# Altium schematic symbol library LIBRARY_SCH.SCHLIB: 713 symbols (part 1 of 6)
Pins are listed as number, name and electrical type; pins without a type are passive.

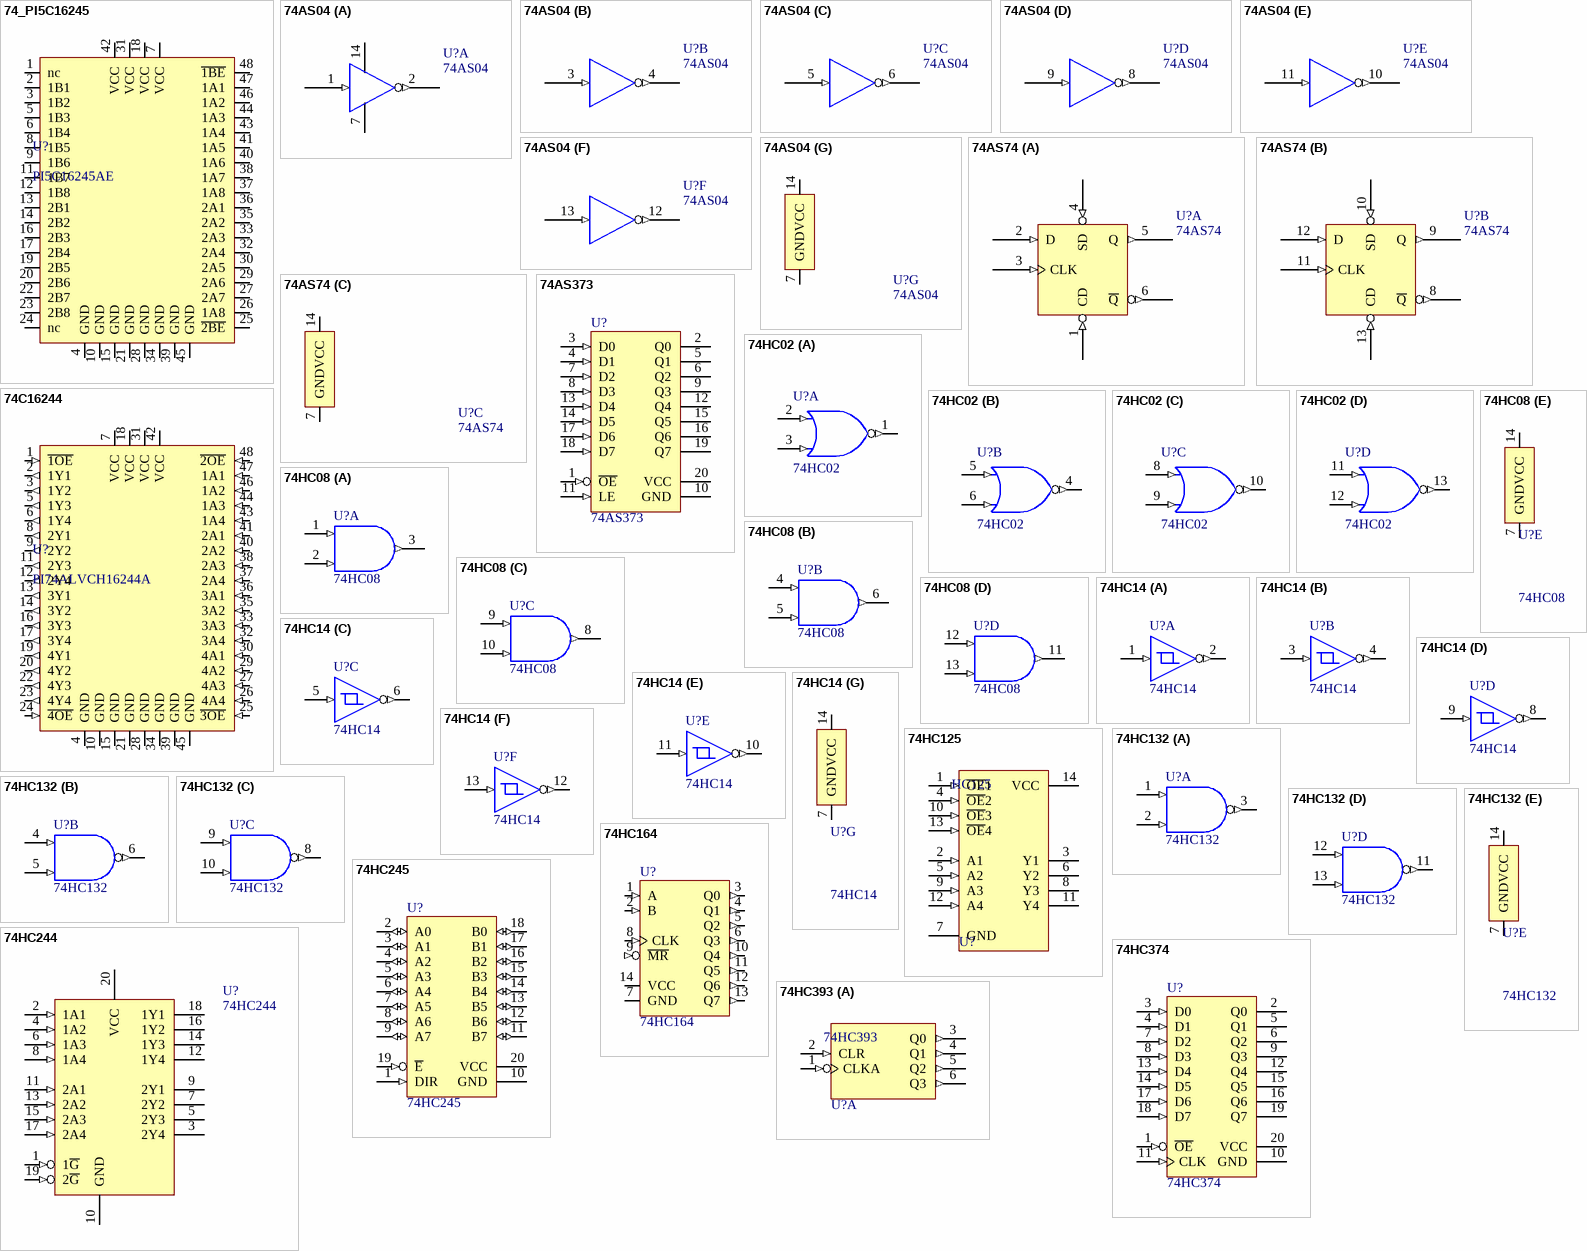
[diagram p0: symbols 74_PI5C16245 to 74HC393]

## 74_PI5C16245
designator U?, comment PI5C16245AE
16 bit bus transceiver
footprint TSSOP-48
pins: 1 nc, 2 1B1 (io), 3 1B2 (io), 4 GND (power), 5 1B3 (io), 6 1B4 (io), 7 VCC (power), 8 1B5 (io), 9 1B6 (io), 10 GND (power), 11 1B7 (io), 12 1B8 (io), 13 2B1 (io), 14 2B2 (io), 15 GND (power), 16 2B3 (io), 17 2B4 (io), 18 VCC (power), 19 2B5 (io), 20 2B6 (io), 21 GND (power), 22 2B7 (io), 23 2B8 (io), 24 nc, 25 ~{2BE} (io), 26 1A8 (io), 27 2A7 (io), 28 GND (power), 29 2A6 (io), 30 2A5 (io), 31 VCC (power), 32 2A4 (io), 33 2A3 (io), 34 GND (power), 35 2A2 (io), 36 2A1 (io), 37 1A8 (io), 38 1A7 (io), 39 GND (power), 40 1A6 (io), 41 1A5 (io), 42 VCC (power), 43 1A4 (io), 44 1A3 (io), 45 GND (power), 46 1A2 (io), 47 1A1 (io), 48 ~{1BE} (io)

## 74AS04
designator U?
footprint DIP-14
footprint SO-14
part A pins: 1 (in), 2 (out), 7 (power), 14 (power)
part B pins: 3 (in), 4 (out)
part C pins: 5 (in), 6 (out)
part D pins: 8 (out), 9 (in)
part E pins: 10 (out), 11 (in)
part F pins: 12 (out), 13 (in)
part G pins: 7 GND (power), 14 VCC (power)
2 alternate drawings of the same symbol

## 74AS74
designator U?
footprint DIP-14
part A pins: 1 CD (in), 2 D (in), 3 CLK (in), 4 SD (in), 5 Q (out), 6 ~{Q} (out)
part B pins: 8 ~{Q} (out), 9 Q (out), 10 SD (in), 11 CLK (in), 12 D (in), 13 CD (in)
part C pins: 7 GND (power), 14 VCC (power)
2 alternate drawings of the same symbol

## 74AS373
designator U?
TTL octal latch
footprint DIP-20
footprint sol-20
footprint tssop20
pins: 1 ~{OE} (in), 2 Q0 (hiz), 3 D0 (in), 4 D1 (in), 5 Q1 (hiz), 6 Q2 (hiz), 7 D2 (in), 8 D3 (in), 9 Q3 (hiz), 10 GND (power), 11 LE (in), 12 Q4 (hiz), 13 D4 (in), 14 D5 (in), 15 Q5 (hiz), 16 Q6 (hiz), 17 D6 (in), 18 D7 (in), 19 Q7 (hiz), 20 VCC (power)
2 alternate drawings of the same symbol

## 74C16244
designator U?, comment PI74ALVCH16244A
16 x Buffer/Driver
footprint TSSOP-48
pins: 1 ~{1OE} (in), 2 1Y1 (out), 3 1Y2 (out), 4 GND (power), 5 1Y3 (out), 6 1Y4 (out), 7 VCC (power), 8 2Y1 (out), 9 2Y2 (out), 10 GND (power), 11 2Y3 (out), 12 2Y4 (out), 13 3Y1 (out), 14 3Y2 (out), 15 GND (power), 16 3Y3 (out), 17 3Y4 (out), 18 VCC (power), 19 4Y1 (out), 20 4Y2 (out), 21 GND (power), 22 4Y3 (out), 23 4Y4 (out), 24 ~{4OE} (in), 25 ~{3OE} (in), 26 4A4 (in), 27 4A3 (in), 28 GND (power), 29 4A2 (in), 30 4A1 (in), 31 VCC (power), 32 3A4 (in), 33 3A3 (in), 34 GND (power), 35 3A2 (in), 36 3A1 (in), 37 2A4 (in), 38 2A3 (in), 39 GND (power), 40 2A2 (in), 41 2A1 (in), 42 VCC (power), 43 1A4 (in), 44 1A3 (in), 45 GND (power), 46 1A2 (in), 47 1A1 (in), 48 ~{2OE} (in)

## 74HC02
designator U?
footprint DIP-14
footprint SO-14
part A pins: 1 (out), 2 (in), 3 (in)
part B pins: 4 (out), 5 (in), 6 (in)
part C pins: 8 (in), 9 (in), 10 (out)
part D pins: 11 (in), 12 (in), 13 (out)
2 alternate drawings of the same symbol

## 74HC08
designator U?
footprint DIP-14
footprint SO-14
part A pins: 1 (in), 2 (in), 3 (out)
part B pins: 4 (in), 5 (in), 6 (out)
part C pins: 8 (out), 9 (in), 10 (in)
part D pins: 11 (out), 12 (in), 13 (in)
part E pins: 7 GND (power), 14 VCC (power)
2 alternate drawings of the same symbol

## 74HC14
designator U?
footprint DIP-14
footprint so-14
part A pins: 1 (in), 2 (out)
part B pins: 3 (in), 4 (out)
part C pins: 5 (in), 6 (out)
part D pins: 8 (out), 9 (in)
part E pins: 10 (out), 11 (in)
part F pins: 12 (out), 13 (in)
part G pins: 7 GND (power), 14 VCC (power)
2 alternate drawings of the same symbol

## 74HC125
designator U?, comment HC125
Quad Buffer with 3-State Output; Package Information: Latest Revision: Aug-1999; Published: 17-Jul-2002; Datasheet: Latest Revision: Nov-1999; Package Reference: MTC14; Publisher: Altium Limited
signal-integrity model 74ACT125MTC
footprint SO-14
pins: 1 ~{OE}1 (in), 2 A1 (in), 3 Y1 (hiz), 4 ~{OE}2 (in), 5 A2 (in), 6 Y2 (hiz), 7 GND (power), 8 Y3 (hiz), 9 A3 (in), 10 ~{OE}3 (in), 11 Y4 (hiz), 12 A4 (in), 13 ~{OE}4 (in), 14 VCC (power)

## 74HC132
designator U?
footprint DIP-14
footprint SO-14
part A pins: 1 (in), 2 (in), 3 (out)
part B pins: 4 (in), 5 (in), 6 (out)
part C pins: 8 (out), 9 (in), 10 (in)
part D pins: 11 (out), 12 (in), 13 (in)
part E pins: 7 GND (power), 14 VCC (power)
2 alternate drawings of the same symbol

## 74HC164
designator U?
shift register
footprint DIP-14
footprint SO-14
pins: 1 A (in), 2 B (in), 3 Q0 (out), 4 Q1 (out), 5 Q2 (out), 6 Q3 (out), 7 GND, 8 CLK (in), 9 ~{MR} (in), 10 Q4 (out), 11 Q5 (out), 12 Q6 (out), 13 Q7 (out), 14 VCC
2 alternate drawings of the same symbol

## 74HC244
designator U?
TTL BUS tristate
footprint sol-20
footprint tssop20
pins: 1 1~{G} (in), 2 1A1 (in), 3 2Y4 (hiz), 4 1A2 (in), 5 2Y3 (hiz), 6 1A3 (in), 7 2Y2 (hiz), 8 1A4 (in), 9 2Y1 (hiz), 10 GND (power), 11 2A1 (in), 12 1Y4 (hiz), 13 2A2 (in), 14 1Y3 (hiz), 15 2A3 (in), 16 1Y2 (hiz), 17 2A4 (in), 18 1Y1 (hiz), 19 2~{G} (in), 20 VCC (power)
2 alternate drawings of the same symbol

## 74HC245
designator U?
octal  bidir line driver
footprint SOL-20
footprint DIP-20
footprint tssop20
pins: 1 DIR (in), 2 A0 (io), 3 A1 (io), 4 A2 (io), 5 A3 (io), 6 A4 (io), 7 A5 (io), 8 A6 (io), 9 A7 (io), 10 GND (power), 11 B7 (io), 12 B6 (io), 13 B5 (io), 14 B4 (io), 15 B3 (io), 16 B2 (io), 17 B1 (io), 18 B0 (io), 19 ~{E} (in), 20 VCC (power)
2 alternate drawings of the same symbol

## 74HC374
designator U?
TTL latch
footprint DIP-20
footprint sol-20
footprint tssop20
pins: 1 ~{OE} (in), 2 Q0 (hiz), 3 D0 (in), 4 D1 (in), 5 Q1 (hiz), 6 Q2 (hiz), 7 D2 (in), 8 D3 (in), 9 Q3 (hiz), 10 GND (power), 11 CLK (in), 12 Q4 (hiz), 13 D4 (in), 14 D5 (in), 15 Q5 (hiz), 16 Q6 (hiz), 17 D6 (in), 18 D7 (in), 19 Q7 (hiz), 20 VCC (power)
2 alternate drawings of the same symbol

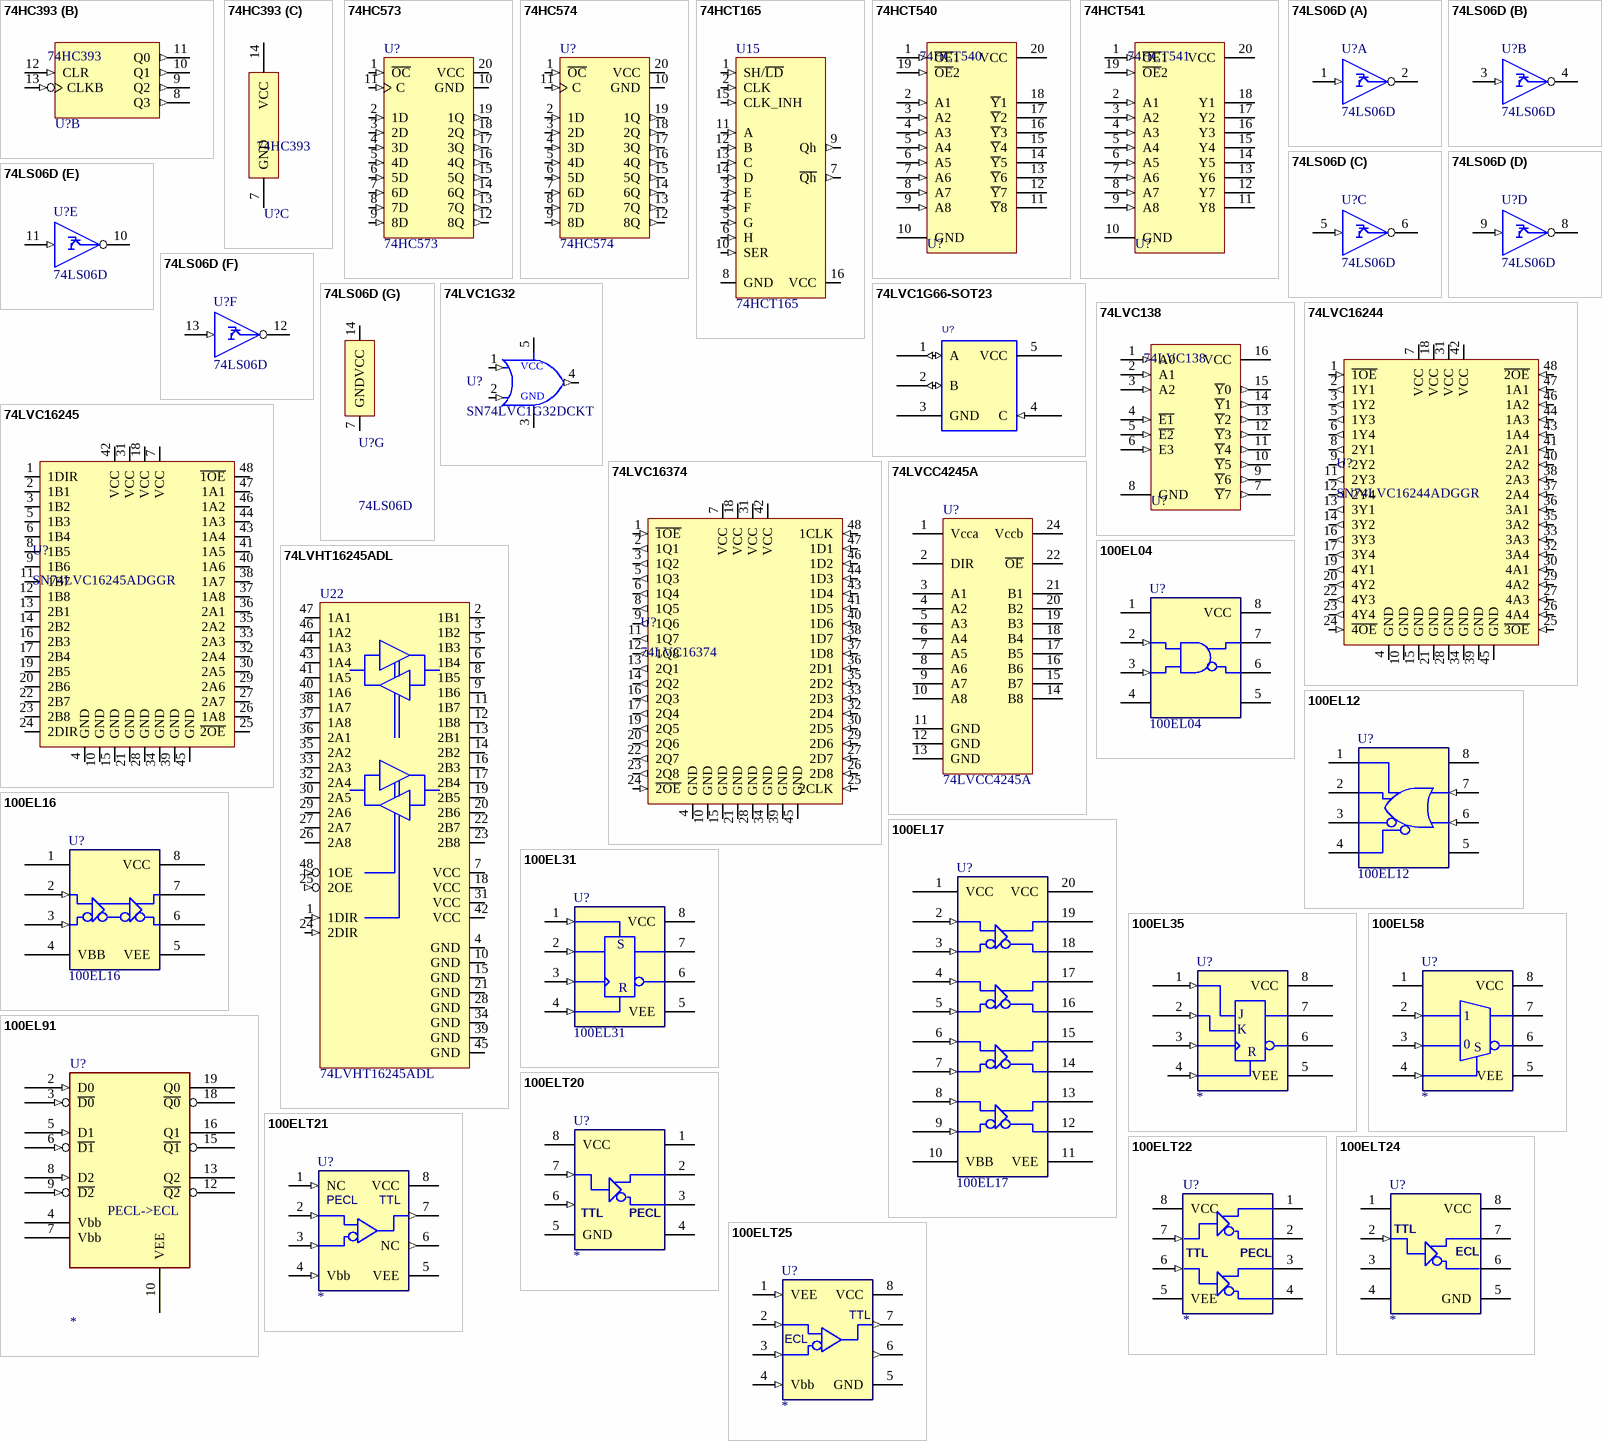
[diagram p1: symbols 74HC393 to 100ELT25]

## 74HC393
designator U?
Dual 4-Bit Binary Counter; Package Information: Latest Revision: 1998; Note: Pins 1, 5, 7, 11, 15 and 17 - no connection and not drawn; Published: 8-Jun-2000; Revision: 17-Jul-2002: Re-released for DXP Platform.; Datasheet: Latest Revision: May-1997; Package Reference: FK020; Publisher: Altium Limited
footprint SO-14
part A pins: 1 CLKA (in), 2 CLR (in), 3 Q0 (out), 4 Q1 (out), 5 Q2 (out), 6 Q3 (out)
part B pins: 8 Q3 (out), 9 Q2 (out), 10 Q1 (out), 11 Q0 (out), 12 CLR (in), 13 CLKB (in)
part C pins: 7 GND (power), 14 VCC (power)

## 74HC573
designator U?
TTL octal  latch
footprint DIP-20
footprint sol-20
footprint tssop20
pins: 1 ~{OC} (in), 2 1D (in), 3 2D (in), 4 3D (in), 5 4D (in), 6 5D (in), 7 6D (in), 8 7D (in), 9 8D (in), 10 GND (power), 11 C (in), 12 8Q (out), 13 7Q (out), 14 6Q (out), 15 5Q (out), 16 4Q (out), 17 3Q (out), 18 2Q (out), 19 1Q (out), 20 VCC (power)
2 alternate drawings of the same symbol

## 74HC574
designator U?
TTL octal  latch
footprint DIP-20
footprint sol-20
footprint tssop20
pins: 1 ~{OC} (in), 2 1D (in), 3 2D (in), 4 3D (in), 5 4D (in), 6 5D (in), 7 6D (in), 8 7D (in), 9 8D (in), 10 GND (power), 11 C (in), 12 8Q (out), 13 7Q (out), 14 6Q (out), 15 5Q (out), 16 4Q (out), 17 3Q (out), 18 2Q (out), 19 1Q (out), 20 VCC (power)
2 alternate drawings of the same symbol

## 74HCT165
designator U15
PISO shift register
footprint SO-16
pins: 1 SH/~{LD} (in), 2 CLK (in), 3 E (in), 4 F (in), 5 G (in), 6 H (in), 7 ~{Qh} (out), 8 GND (power), 9 Qh (out), 10 SER (in), 11 A (in), 12 B (in), 13 C (in), 14 D (in), 15 CLK_INH (in), 16 VCC (power)

## 74HCT540
designator U?
Octal Bus Buffer with 3 State Outputs (Inverted); Code - JEDEC: MS-013-AC; Code - IPC: SO20W; Published: 8-Jun-2000; Revision: 17-Jul-2002: Re-released for DXP Platform.; Datasheet: Latest Revision: Oct-1993; Package Reference: SO20B; Publisher: Altium Limited
signal-integrity model M74HCT540M1R
footprint sol-20
footprint tssop20
pins: 1 ~{OE}1 (in), 2 A1 (in), 3 A2 (in), 4 A3 (in), 5 A4 (in), 6 A5 (in), 7 A6 (in), 8 A7 (in), 9 A8 (in), 10 GND (power), 11 ~{Y}8 (hiz), 12 ~{Y}7 (hiz), 13 ~{Y}6 (hiz), 14 ~{Y}5 (hiz), 15 ~{Y}4 (hiz), 16 ~{Y}3 (hiz), 17 ~{Y}2 (hiz), 18 ~{Y}1 (hiz), 19 ~{OE}2 (in), 20 VCC (power)

## 74HCT541
designator U?
Octal Bus Buffer with 3 State Outputs (Non Inverted); Package Information: Latest Revision: Mar-1992; Published: 8-Jun-2000; Revision: 17-Jul-2002: Re-released for DXP Platform.; Datasheet: Latest Revision: Oct-1993; Package Reference: PLCC20; Publisher: Altium Limited
signal-integrity model M74HCT541C1R
footprint sol-20
footprint tssop20
pins: 1 ~{OE}1 (in), 2 A1 (in), 3 A2 (in), 4 A3 (in), 5 A4 (in), 6 A5 (in), 7 A6 (in), 8 A7 (in), 9 A8 (in), 10 GND (power), 11 Y8 (hiz), 12 Y7 (hiz), 13 Y6 (hiz), 14 Y5 (hiz), 15 Y4 (hiz), 16 Y3 (hiz), 17 Y2 (hiz), 18 Y1 (hiz), 19 ~{OE}2 (in), 20 VCC (power)

## 74LS06D
designator U?
hex HV OC inverters (Maritex)
footprint DIP-14
footprint so-14
part A pins: 1 (in), 2 (oc)
part B pins: 3 (in), 4 (oc)
part C pins: 5 (in), 6 (oc)
part D pins: 8 (oc), 9 (in)
part E pins: 10 (oc), 11 (in)
part F pins: 12 (oc), 13 (in)
part G pins: 7 GND (power), 14 VCC (power)
2 alternate drawings of the same symbol

## 74LVC1G32
designator U?, comment SN74LVC1G32DCKT
footprint SC70
footprint SOT23-5
pins: 1 (in), 2 (in), 3 GND (power), 4 (out), 5 (power)
text: VCC

## 74LVC1G66-SOT23
designator U?, comment SN74LVC1G66DBVT  (value not drawn)
FAB: TI; DEV: CIS_SOT23-5_02; BOI: SOT23; DESIG: SINGLE BILATERAL ANALOG SWITCH; REF: SN74LVC1G66DBVR; Right: 50; Bottom: 60
footprint SOT23-5
pins: 1 A (io), 2 B (io), 3 GND (power), 4 C (in), 5 VCC (power)

## 74LVC138
designator U?
3-Line to 8-Line Decoder / Demultiplexer; Package Information: Latest Revision: 1998; Note: Pins 1, 6, 11 and 16 are not connected and not drawn.; Published: 8-Jun-2000; Revision: 17-Jul-2002: Re-released for DXP Platform.; Datasheet: Latest Revision: Oct-1998; Package Reference: FK020; Publisher: Altium Limited
footprint tssop-16
pins: 1 A0 (in), 2 A1 (in), 3 A2 (in), 4 ~{E1} (in), 5 ~{E2} (in), 6 E3 (in), 7 ~{Y}7 (out), 8 GND (power), 9 ~{Y}6 (out), 10 ~{Y}5 (out), 11 ~{Y}4 (out), 12 ~{Y}3 (out), 13 ~{Y}2 (out), 14 ~{Y}1 (out), 15 ~{Y}0 (out), 16 VCC (power)

## 74LVC16244
designator U?, comment SN74LVC16244ADGGR
16 x Buffer/Driver
footprint TSSOP-48
pins: 1 ~{1OE} (in), 2 1Y1 (out), 3 1Y2 (out), 4 GND (power), 5 1Y3 (out), 6 1Y4 (out), 7 VCC (power), 8 2Y1 (out), 9 2Y2 (out), 10 GND (power), 11 2Y3 (out), 12 2Y4 (out), 13 3Y1 (out), 14 3Y2 (out), 15 GND (power), 16 3Y3 (out), 17 3Y4 (out), 18 VCC (power), 19 4Y1 (out), 20 4Y2 (out), 21 GND (power), 22 4Y3 (out), 23 4Y4 (out), 24 ~{4OE} (in), 25 ~{3OE} (in), 26 4A4 (in), 27 4A3 (in), 28 GND (power), 29 4A2 (in), 30 4A1 (in), 31 VCC (power), 32 3A4 (in), 33 3A3 (in), 34 GND (power), 35 3A2 (in), 36 3A1 (in), 37 2A4 (in), 38 2A3 (in), 39 GND (power), 40 2A2 (in), 41 2A1 (in), 42 VCC (power), 43 1A4 (in), 44 1A3 (in), 45 GND (power), 46 1A2 (in), 47 1A1 (in), 48 ~{2OE} (in)

## 74LVC16245
designator U?, comment SN74LVC16245ADGGR
16 bit bus transceiver
footprint TSSOP-48
pins: 1 1DIR (io), 2 1B1 (io), 3 1B2 (io), 4 GND (power), 5 1B3 (io), 6 1B4 (io), 7 VCC (power), 8 1B5 (io), 9 1B6 (io), 10 GND (power), 11 1B7 (io), 12 1B8 (io), 13 2B1 (io), 14 2B2 (io), 15 GND (power), 16 2B3 (io), 17 2B4 (io), 18 VCC (power), 19 2B5 (io), 20 2B6 (io), 21 GND (power), 22 2B7 (io), 23 2B8 (io), 24 2DIR (io), 25 ~{2OE} (io), 26 1A8 (io), 27 2A7 (io), 28 GND (power), 29 2A6 (io), 30 2A5 (io), 31 VCC (power), 32 2A4 (io), 33 2A3 (io), 34 GND (power), 35 2A2 (io), 36 2A1 (io), 37 1A8 (io), 38 1A7 (io), 39 GND (power), 40 1A6 (io), 41 1A5 (io), 42 VCC (power), 43 1A4 (io), 44 1A3 (io), 45 GND (power), 46 1A2 (io), 47 1A1 (io), 48 ~{1OE} (io)

## 74LVC16374
designator U?
16-BIT EDGE-TRIGGERED D-TYPE FLIP-FLOPS WITH 3-STATE OUTPUTS
footprint TSSOP-48
pins: 1 ~{1OE} (in), 2 1Q1 (out), 3 1Q2 (out), 4 GND (power), 5 1Q3 (out), 6 1Q4 (out), 7 VCC (power), 8 1Q5 (out), 9 1Q6 (out), 10 GND (power), 11 1Q7 (out), 12 1Q8 (out), 13 2Q1 (out), 14 2Q2 (out), 15 GND (power), 16 2Q3 (out), 17 2Q4 (out), 18 VCC (power), 19 2Q5 (out), 20 2Q6 (out), 21 GND (power), 22 2Q7 (out), 23 2Q8 (out), 24 ~{2OE} (in), 25 2CLK (in), 26 2D8 (in), 27 2D7 (in), 28 GND (power), 29 2D6 (in), 30 2D5 (in), 31 VCC (power), 32 2D4 (in), 33 2D3 (in), 34 GND (power), 35 2D2 (in), 36 2D1 (in), 37 1D8 (in), 38 1D7 (in), 39 GND (power), 40 1D6 (in), 41 1D5 (in), 42 VCC (power), 43 1D4 (in), 44 1D3 (in), 45 GND (power), 46 1D2 (in), 47 1D1 (in), 48 1CLK (in)

## 74LVCC4245A
designator U?
footprint SOIC24
pins: 1 Vcca, 2 DIR, 3 A1, 4 A2, 5 A3, 6 A4, 7 A5, 8 A6, 9 A7, 10 A8, 11 GND, 12 GND, 13 GND, 14 B8, 15 B7, 16 B6, 17 B5, 18 B4, 19 B3, 20 B2, 21 B1, 22 ~{OE}, 24 Vccb
2 alternate drawings of the same symbol

## 74LVHT16245ADL
designator U22
16 bit tristate bidir buffer for VME application
footprint SSOP-48(DL)
pins: 1 1DIR (in), 2 1B1 (hiz), 3 1B2 (hiz), 4 GND (power), 5 1B3 (hiz), 6 1B4 (hiz), 7 VCC (power), 8 1B5 (hiz), 9 1B6 (hiz), 10 GND (power), 11 1B7 (hiz), 12 1B8 (hiz), 13 2B1 (hiz), 14 2B2 (hiz), 15 GND (power), 16 2B3 (hiz), 17 2B4 (hiz), 18 VCC (power), 19 2B5 (hiz), 20 2B6 (hiz), 21 GND (power), 22 2B7 (hiz), 23 2B8 (hiz), 24 2DIR (in), 25 2OE (in), 26 2A8 (hiz), 27 2A7 (hiz), 28 GND (power), 29 2A6 (hiz), 30 2A5 (hiz), 31 VCC (power), 32 2A4 (hiz), 33 2A3 (hiz), 34 GND (power), 35 2A2 (hiz), 36 2A1 (hiz), 37 1A8 (hiz), 38 1A7 (hiz), 39 GND (power), 40 1A6 (hiz), 41 1A5 (hiz), 42 VCC (power), 43 1A4 (hiz), 44 1A3 (hiz), 45 GND (power), 46 1A2 (hiz), 47 1A1 (hiz), 48 1OE (in)

## 100EL04
designator U?
2-Input AND/NAND; Text Field1: ON Semiconductors
footprint SO-8
pins: 1, 2 (in), 3 (in), 4, 5 VEE (power), 6 (oe), 7 (oe), 8 VCC (power)
2 alternate drawings of the same symbol

## 100EL12
designator U?
Low Impedance Driver; Text Field1: ON Semiconductors
footprint SO-8
pins: 1 (oe), 2 (oe), 3 (oe), 4 (oe), 5 VEE (power), 6 (in), 7 (in), 8 VCC (power)
2 alternate drawings of the same symbol

## 100EL16
designator U?
Differential Receiver; Text Field1: ON Semiconductors
footprint SO-8
pins: 1, 2 (in), 3 (in), 4 VBB (oe), 5 VEE (power), 6 (oe), 7 (oe), 8 VCC (power)
2 alternate drawings of the same symbol

## 100EL17
designator U?
Quad Differential Receiver; Text Field1: ON Semiconductors
footprint SO-20L
pins: 1 VCC (power), 2 (in), 3 (in), 4 (in), 5 (in), 6 (in), 7 (in), 8 (in), 9 (in), 10 VBB (oe), 11 VEE (power), 12 (oe), 13 (oe), 14 (oe), 15 (oe), 16 (oe), 17 (oe), 18 (oe), 19 (oe), 20 VCC (power)
2 alternate drawings of the same symbol

## 100EL31
designator U?
D Flip-Flop; Text Field1: ON Semiconductors
footprint SO-8
pins: 1 (in), 2 (in), 3 (in), 4 (in), 5 VEE (power), 6 (oe), 7 (oe), 8 VCC (power)
2 alternate drawings of the same symbol
text: S; R

## 100EL35
designator U?
JK Flip-Flop; Text Field1: ON Semiconductors
footprint SO-8
pins: 1 (in), 2 (in), 3 (in), 4 (in), 5 VEE (power), 6 (oe), 7 (oe), 8 VCC (power)
2 alternate drawings of the same symbol
text: J; K; R

## 100EL58
designator U?
2:1 Multiplexer; Text Field1: ON Semiconductors
footprint SO-8
pins: 1, 2 (in), 3 (in), 4 (in), 5 VEE (power), 6 (oe), 7 (oe), 8 VCC (power)
2 alternate drawings of the same symbol
text: 0; S

## 100EL91
designator U?
Triple LVPECL-ECL Translator; Text Field1: ON Semiconductors
footprint SOL-20
pins: 2 D0 (in), 3 ~{D0} (in), 4 Vbb (oe), 5 D1 (in), 6 ~{D1} (in), 7 Vbb (oe), 8 D2 (in), 9 ~{D2} (in), 10 VEE (power), 12 ~{Q2} (oe), 13 Q2 (oe), 15 ~{Q1} (oe), 16 Q1 (oe), 18 ~{Q0} (oe), 19 Q0 (oe)
2 alternate drawings of the same symbol
text: PECL->ECL

## 100ELT20
designator U?
TTL-PECL Translator; Text Field1: ON Semiconductors
footprint SO-8
pins: 1 (oe), 2 (oe), 3 (oe), 4   (oe), 5 GND (power), 6 (in), 7 (in), 8 VCC (power)
2 alternate drawings of the same symbol
text: TTL; PECL

## 100ELT21
designator U?
PECL-TTL Translator; Text Field1: ON Semiconductors
footprint SO-8
pins: 1 NC (in), 2 (in), 3 (in), 4 Vbb (in), 5 VEE (power), 6 NC (out), 7 (out), 8 VCC (power)
2 alternate drawings of the same symbol
text: PECL; TTL

## 100ELT22
designator U?
TTL-PECL Translator; Text Field1: ON Semiconductors
footprint SO-8
pins: 1 (oe), 2 (oe), 3 (oe), 4   (oe), 5 VEE (power), 6 (in), 7 (in), 8 VCC (power)
2 alternate drawings of the same symbol
text: TTL; PECL

## 100ELT24
designator U?
TTL-ECL Translator; Text Field1: ON Semiconductors
footprint SO-8
pins: 1 VEE (power), 2 (in), 3 (oe), 4   (oe), 5 GND (power), 6 (oe), 7 (oe), 8 VCC (power)
2 alternate drawings of the same symbol
text: TTL; ECL

## 100ELT25
designator U?
ECL-TTL Translator; Text Field1: ON Semiconductors
footprint SO-8
pins: 1 VEE (in), 2 (in), 3 (in), 4 Vbb (in), 5 GND (power), 6 (out), 7 (out), 8 VCC (power)
2 alternate drawings of the same symbol
text: TTL; ECL

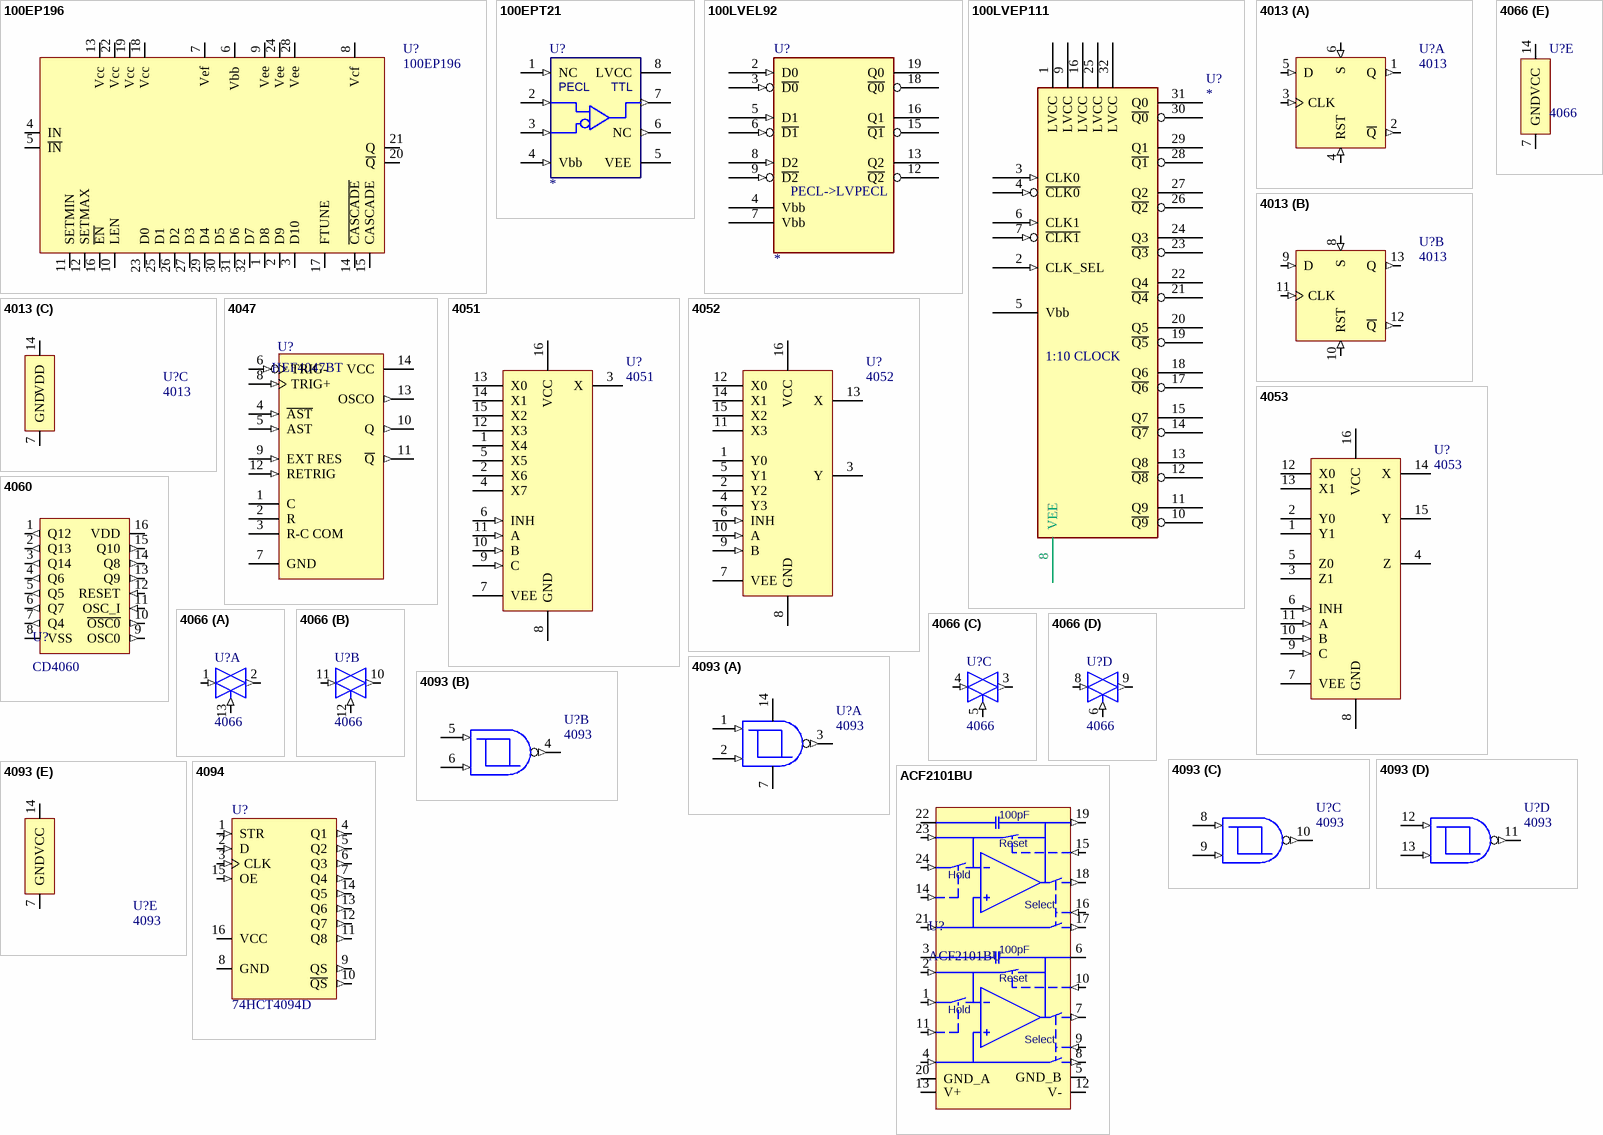
[diagram p2: symbols 100EP196 to ACF2101BU]

## 100EP196
designator U?
footprint LQFP32
pins: 1 D8, 2 D9, 3 D10, 4 IN, 5 ~{IN}, 6 Vbb, 7 Vef, 8 Vcf, 9 Vee, 10 LEN, 11 SETMIN, 12 SETMAX, 13 Vcc, 14 ~{CASCADE}, 15 CASCADE, 16 ~{EN}, 17 FTUNE, 18 Vcc, 19 Vcc, 20 ~{Q}, 21 Q, 22 Vcc, 23 D0, 24 Vee, 25 D1, 26 D2, 27 D3, 28 Vee, 29 D4, 30 D5, 31 D6, 32 D7
2 alternate drawings of the same symbol

## 100EPT21
designator U?
LVPECL-LVTTL Translator; Text Field1: ON Semiconductors
footprint SO-8
footprint TSSOP-8
pins: 1 NC (in), 2 (in), 3 (in), 4 Vbb (in), 5 VEE (power), 6 NC (out), 7 (out), 8 LVCC (power)
2 alternate drawings of the same symbol
text: PECL; TTL

## 100LVEL92
designator U?
Triple PECL-LVPECL TRANSLATOR; Text Field1: ON Semiconductors
footprint SOL-20
pins: 2 D0 (in), 3 ~{D0} (in), 4 Vbb (oe), 5 D1 (in), 6 ~{D1} (in), 7 Vbb (oe), 8 D2 (in), 9 ~{D2} (in), 12 ~{Q2} (oe), 13 Q2 (oe), 15 ~{Q1} (oe), 16 Q1 (oe), 18 ~{Q0} (oe), 19 Q0 (oe)
2 alternate drawings of the same symbol
text: PECL->LVPECL

## 100LVEP111
designator U?
1:10 Clock Driver; Text Field1: ON Semiconductors
footprint LQFP-32
pins: 1 LVCC (power), 2 CLK_SEL (in), 3 CLK0 (in), 4 ~{CLK0} (in), 5 Vbb (oe), 6 CLK1 (in), 7 ~{CLK1} (in), 8 VEE (power), 9 LVCC (power), 10 ~{Q9} (oe), 11 Q9 (oe), 12 ~{Q8} (oe), 13 Q8 (oe), 14 ~{Q7} (oe), 15 Q7 (oe), 16 LVCC (power), 17 ~{Q6} (oe), 18 Q6 (oe), 19 ~{Q5} (oe), 20 Q5 (oe), 21 ~{Q4} (oe), 22 Q4 (oe), 23 ~{Q3} (oe), 24 Q3 (oe), 25 LVCC (power), 26 ~{Q2} (oe), 27 Q2 (oe), 28 ~{Q1} (oe), 29 Q1 (oe), 30 ~{Q0} (oe), 31 Q0 (oe), 32 LVCC (power)
2 alternate drawings of the same symbol
text: 1:10 CLOCK

## 4013
designator U?
Dual D-Type Flip-Flop; Published: 8-Jun-2000; Revision: 17-Jul-2002: Re-released for DXP Platform.; Datasheet: Latest Revision: Jun-1989; Package Reference: SO14C; Publisher: Altium Limited
footprint SO-14
part A pins: 1 Q (out), 2 ~{Q} (out), 3 CLK (in), 4 RST (in), 5 D (in), 6 S (in)
part B pins: 8 S (in), 9 D (in), 10 RST (in), 11 CLK (in), 12 ~{Q} (out), 13 Q (out)
part C pins: 7 GND (power), 14 VDD (power)

## 4047
designator U?, comment HEF4047BT
Low-Power Monostable/Astable Multivibrator; Package Information: Latest Revision: Jan-1997; Published: 8-Jun-2000; Revision: 17-Jul-2002: Re-released for DXP Platform.; Datasheet: Latest Revision: Jun-1989; Package Reference: DIP14; Publisher: Altium Limited
footprint SO-14 (Footprint not found)
pins: 1 C, 2 R, 3 R-C COM, 4 ~{AST} (in), 5 AST (in), 6 TRIG- (in), 7 GND (power), 8 TRIG+ (in), 9 EXT RES (in), 10 Q (out), 11 ~{Q} (out), 12 RETRIG (in), 13 OSCO (out), 14 VCC (power)

## 4051
designator U?
footprint DIP-16
footprint SO-16
pins: 1 X4, 2 X6, 3 X, 4 X7, 5 X5, 6 INH (in), 7 VEE, 8 GND (power), 9 C (in), 10 B (in), 11 A (in), 12 X3, 13 X0, 14 X1, 15 X2, 16 VCC (power)
2 alternate drawings of the same symbol

## 4052
designator U?
footprint DIP-16
footprint SO-16
pins: 1 Y0, 2 Y2, 3 Y, 4 Y3, 5 Y1, 6 INH (in), 7 VEE, 8 GND (power), 9 B (in), 10 A (in), 11 X3, 12 X0, 13 X, 14 X1, 15 X2, 16 VCC (power)
2 alternate drawings of the same symbol

## 4053
designator U?
footprint DIP-16
footprint SO-16
pins: 1 Y1, 2 Y0, 3 Z1, 4 Z, 5 Z0, 6 INH (in), 7 VEE, 8 GND (power), 9 C (in), 10 B (in), 11 A (in), 12 X0, 13 X1, 14 X, 15 Y, 16 VCC (power)
2 alternate drawings of the same symbol

## 4060
designator U?, comment CD4060
footprint SO-16
footprint DIP-16
pins: 1 Q12 (out), 2 Q13 (out), 3 Q14 (out), 4 Q6 (out), 5 Q5 (out), 6 Q7 (out), 7 Q4 (out), 8 VSS (power), 9 OSC0 (out), 10 ~{OSC0} (out), 11 OSC_I (in), 12 RESET (in), 13 Q9 (out), 14 Q8 (out), 15 Q10 (out), 16 VDD (power)

## 4066
designator U?
CMOS switches
footprint DIP-14
footprint SO-14
part A pins: 1 (in), 2 (out), 13 (in)
part B pins: 10 (out), 11 (in), 12 (in)
part C pins: 3 (out), 4 (in), 5 (in)
part D pins: 6 (in), 8 (in), 9 (out)
part E pins: 7 GND (power), 14 VCC (power)
2 alternate drawings of the same symbol

## 4093
designator U?
footprint DIP-14
footprint so-14
part A pins: 1 (in), 2 (in), 3 (out), 7, 14
part B pins: 4 (out), 5 (in), 6 (in)
part C pins: 8 (in), 9 (in), 10 (out)
part D pins: 11 (out), 12 (in), 13 (in)
part E pins: 7 GND (power), 14 VCC (power)
2 alternate drawings of the same symbol

## 4094
designator U?, comment 74HCT4094D
shift register
footprint DIP-16
footprint SO-16
pins: 1 STR (in), 2 D (in), 3 CLK (in), 4 Q1 (out), 5 Q2 (out), 6 Q3 (out), 7 Q4 (out), 8 GND (power), 9 QS (out), 10 ~{QS} (out), 11 Q8 (out), 12 Q7 (out), 13 Q6 (out), 14 Q5 (out), 15 OE (in), 16 VCC (power)
2 alternate drawings of the same symbol

## ACF2101BU
designator U?
double integrator
footprint SOIC24
pins: 1 (in), 2 (in), 3, 4 (in), 5 GND_B (power), 6 (power), 7 (out), 8 (out), 9 (in), 10 (in), 11 (in), 12 V- (power), 13 V+ (power), 14 (in), 15 (in), 16 (in), 17 (out), 18 (out), 19 (out), 20 GND_A (power), 21 (in), 22, 23 (in), 24 (in)
text: 100pF; Reset; Hold; Select

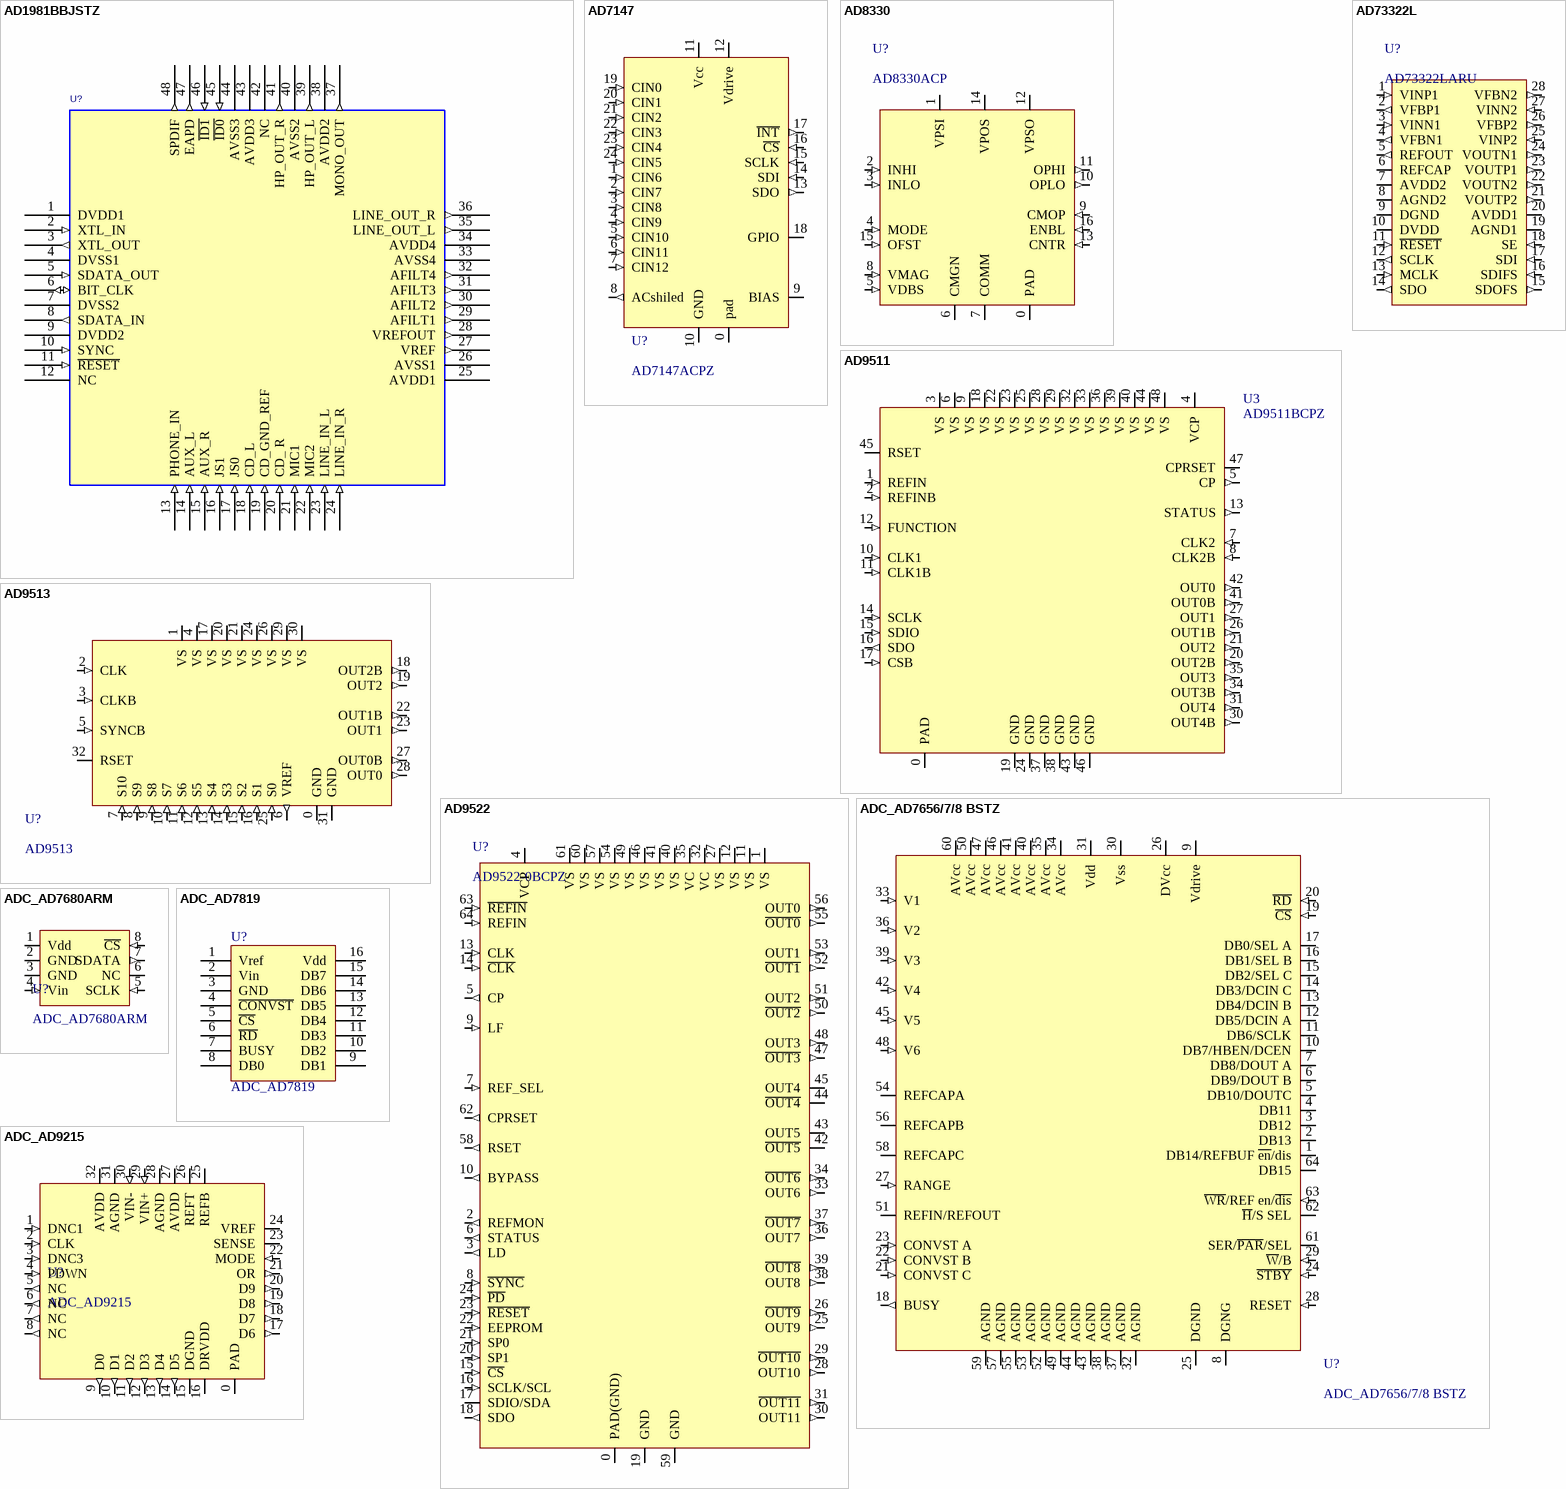
[diagram p3: symbols AD1981BBJSTZ to ADC_AD9215]

## AD1981BBJSTZ
designator U?, comment AD1981B
AC ’97 SoundMAX® Codec; REF: AD1981BBJSTZ; DESIG: AC97 AUDIO CODEC (-40° .. +85°C); BOI: LQFP48; DEV: CIS_QFP48_02; FAB: ANALOG DEVICES; Right: 250; Bottom: 250
footprint LQFP48L
pins: 1 DVDD1 (power), 2 XTL_IN (in), 3 XTL_OUT (out), 4 DVSS1 (power), 5 SDATA_OUT (in), 6 BIT_CLK (io), 7 DVSS2 (power), 8 SDATA_IN (out), 9 DVDD2 (power), 10 SYNC (in), 11 ~{RESET} (in), 12 NC, 13 PHONE_IN (in), 14 AUX_L (in), 15 AUX_R (in), 16 JS1 (in), 17 JS0 (in), 18 CD_L (in), 19 CD_GND_REF (in), 20 CD_ R (in), 21 MIC1 (in), 22 MIC2 (in), 23 LINE_IN_L (in), 24 LINE_IN_R (in), 25 AVDD1 (power), 26 AVSS1 (power), 27 VREF (out), 28 VREFOUT (out), 29 AFILT1 (out), 30 AFILT2 (out), 31 AFILT3 (out), 32 AFILT4 (out), 33 AVSS4 (power), 34 AVDD4 (power), 35 LINE_OUT_L (out), 36 LINE_OUT_R (out), 37 MONO_OUT (out), 38 AVDD2 (power), 39 HP_OUT_L (out), 40 AVSS2 (power), 41 HP_OUT_R (out), 42 NC, 43 AVDD3 (power), 44 AVSS3 (power), 45 ~{ID0} (in), 46 ~{ID1} (in), 47 EAPD (out), 48 SPDIF (out)

## AD7147
designator U?, comment AD7147ACPZ
CapTouch™ Programmable Controller for  Single-Electrode Capacitance Sensors
footprint LFCSP24
pins: 0 pad, 1 CIN6 (in), 2 CIN7 (in), 3 CIN8 (in), 4 CIN9 (in), 5 CIN10 (in), 6 CIN11 (in), 7 CIN12 (in), 8 ACshiled (out), 9 BIAS, 10 GND (power), 11 Vcc (power), 12 Vdrive (power), 13 SDO (out), 14 SDI (in), 15 SCLK (in), 16 ~{CS} (in), 17 ~{INT} (out), 18 GPIO (io), 19 CIN0 (in), 20 CIN1 (in), 21 CIN2 (in), 22 CIN3 (in), 23 CIN4 (in), 24 CIN5 (in)

## AD8330
designator U?, comment AD8330ACP
Low Cost, DC to 150 MHz Variable Gain Amplifier
footprint CP-16-3
pins: 0 PAD, 1 VPSI (power), 2 INHI (in), 3 INLO (in), 4 MODE (in), 5 VDBS (in), 6 CMGN, 7 COMM, 8 VMAG (in), 9 CMOP (in), 10 OPLO (out), 11 OPHI (out), 12 VPSO (power), 13 CNTR (in), 14 VPOS (power), 15 OFST (in), 16 ENBL (in)

## AD9511
designator U3, comment AD9511BCPZ
1.2 GHz Clock Distribution IC, PLL Core,  Dividers, Delay Adjust, Five Outputs
footprint LFCSP_VQ48
pins: 0 PAD (power), 1 REFIN (in), 2 REFINB (in), 3 VS (power), 4 VCP (power), 5 CP (out), 6 VS (power), 7 CLK2 (in), 8 CLK2B (in), 9 VS (power), 10 CLK1 (in), 11 CLK1B (in), 12 FUNCTION (in), 13 STATUS (out), 14 SCLK (in), 15 SDIO (in), 16 SDO (out), 17 CSB (in), 18 VS (power), 19 GND (power), 20 OUT2B (out), 21 OUT2 (out), 22 VS (power), 23 VS (power), 24 GND (power), 25 VS (power), 26 OUT1B (out), 27 OUT1 (out), 28 VS (power), 29 VS (power), 30 OUT4B (out), 31 OUT4 (out), 32 VS (power), 33 VS (power), 34 OUT3B (out), 35 OUT3 (out), 36 VS (power), 37 GND (power), 38 GND (power), 39 VS (power), 40 VS (power), 41 OUT0B (out), 42 OUT0 (out), 43 GND (power), 44 VS (power), 45 RSET, 46 GND (power), 47 CPRSET, 48 VS (power)

## AD9513
designator U?
800 MHz Clock Distribution IC, Dividers,  Delay Adjust, Three Outputs
footprint LFCSP32
pins: 0 GND (power), 1 VS (power), 2 CLK (in), 3 CLKB (in), 4 VS (power), 5 SYNCB (in), 6 VREF (out), 7 S10 (in), 8 S9 (in), 9 S8 (in), 10 S7 (in), 11 S6 (in), 12 S5 (in), 13 S4 (in), 14 S3 (in), 15 S2 (in), 16 S1 (in), 17 VS (power), 18 OUT2B (out), 19 OUT2 (out), 20 VS (power), 21 VS (power), 22 OUT1B (out), 23 OUT1 (out), 24 VS (power), 25 S0 (in), 26 VS (power), 27 OUT0B (out), 28 OUT0 (out), 29 VS (power), 30 VS (power), 31 GND (power), 32 RSET

## AD9522
designator U?, comment AD9522-0BCPZ
footprint LFCSP_CP-64-4
pins: 0 PAD(GND) (power), 1 VS (power), 2 REFMON  (out), 3 LD (out), 4 VCP (power), 5 CP (out), 6 STATUS (out), 7 REF_SEL (in), 8 ~{SYNC} (in), 9 LF (in), 10 BYPASS (out), 11 VS (power), 12 VS (power), 13 CLK (in), 14 ~{CLK} (in), 15 ~{CS} (in), 16 SCLK/SCL (in), 17 SDIO/SDA (io), 18 SDO (out), 19 GND (power), 20 SP1 (in), 21 SP0 (in), 22 EEPROM (in), 23 ~{RESET} (in), 24 ~{PD} (in), 25 OUT9 (out), 26 ~{OUT9} (out), 27 VS (power), 28 OUT10 (out), 29 ~{OUT10} (out), 30 OUT11 (out), 31 ~{OUT11} (out), 32 VC (power), 33 OUT6 (out), 34 ~{OUT6} (out), 35 VC (power), 36 OUT7 (out), 37 ~{OUT7} (out), 38 OUT8 (out), 39 ~{OUT8} (out), 40 VS (power), 41 VS (power), 42 ~{OUT5} (power), 43 OUT5 (power), 44 ~{OUT4} (power), 45 OUT4 (power), 46 VS (power), 47 ~{OUT3} (out), 48 OUT3 (out), 49 VS (power), 50 ~{OUT2} (out), 51 OUT2 (out), 52 ~{OUT1} (out), 53 OUT1 (out), 54 VS (power), 55 ~{OUT0} (out), 56 OUT0 (out), 57 VS (power), 58 RSET (out), 59 GND (power), 60 VS (power), 61 VS (power), 62 CPRSET (out), 63 ~{REFIN} (in), 64 REFIN (in)

## AD73322L
designator U?, comment AD73322LARU
General-Purpose Dual Analog Front End
footprint SOIC-28
footprint TSSOP-28
pins: 1 VINP1 (in), 2 VFBP1 (out), 3 VINN1 (in), 4 VFBN1 (out), 5 REFOUT (out), 6 REFCAP, 7 AVDD2 (power), 8 AGND2 (power), 9 DGND (power), 10 DVDD (power), 11 ~{RESET} (in), 12 SCLK (out), 13 MCLK (in), 14 SDO (out), 15 SDOFS (out), 16 SDIFS (in), 17 SDI (in), 18 SE (in), 19 AGND1 (power), 20 AVDD1 (power), 21 VOUTP2 (out), 22 VOUTN2 (out), 23 VOUTP1 (out), 24 VOUTN1 (out), 25 VINP2 (in), 26 VFBP2 (out), 27 VINN2 (in), 28 VFBN2 (out)

## ADC_AD7656/7/8 BSTZ
designator U?
250 kSPS, 6-Channel, Simultaneous Sampling, Bipolar 16-/14-/12-Bit ADC
footprint LQFP64
pins: 1 DB14/REFBUF ~{en}/dis (io), 2 DB13 (io), 3 DB12 (io), 4 DB11 (io), 5 DB10/DOUTC (io), 6 DB9/DOUT B (io), 7 DB8/DOUT A (io), 8 DGNG (power), 9 Vdrive (power), 10 DB7/HBEN/DCEN (io), 11 DB6/SCLK (io), 12 DB5/DCIN A (io), 13 DB4/DCIN B (io), 14 DB3/DCIN C (io), 15 DB2/SEL C (io), 16 DB1/SEL B (io), 17 DB0/SEL A (io), 18 BUSY (out), 19 ~{CS} (in), 20 ~{RD} (in), 21 CONVST C (in), 22 CONVST B (in), 23 CONVST A (in), 24 ~{STBY} (in), 25 DGND (power), 26 DVcc (power), 27 RANGE (in), 28 RESET (in), 29 ~{W}/B (in), 30 Vss (power), 31 Vdd (power), 32 AGND (power), 33 V1 (in), 34 AVcc (power), 35 AVcc (power), 36 V2 (in), 37 AGND (power), 38 AGND (power), 39 V3 (in), 40 AVcc (power), 41 AVcc (power), 42 V4 (in), 43 AGND (power), 44 AGND (power), 45 V5 (in), 46 AVcc (power), 47 AVcc (power), 48 V6 (in), 49 AGND (power), 50 AVcc (power), 51 REFIN/REFOUT (io), 52 AGND (power), 53 AGND (power), 54 REFCAPA, 55 AGND (power), 56 REFCAPB, 57 AGND (power), 58 REFCAPC, 59 AGND (power), 60 AVcc (power), 61 SER/~{PAR}/SEL (io), 62 ~{H}/S SEL (io), 63 ~{WR}/REF en/~{dis} (in), 64 DB15 (io)

## ADC_AD7680ARM
designator U?
16bit 100ksps serial  ADC
footprint msop-8
pins: 1 Vdd (power), 2 GND (power), 3 GND (power), 4 Vin (in), 5 SCLK (in), 6 NC, 7 SDATA (out), 8 ~{CS} (in)

## ADC_AD7819
designator U?
footprint SOP16
pins: 1 Vref, 2 Vin, 3 GND, 4 ~{CONVST}, 5 ~{CS}, 6 ~{RD}, 7 BUSY, 8 DB0, 9 DB1, 10 DB2, 11 DB3, 12 DB4, 13 DB5, 14 DB6, 15 DB7, 16 Vdd
2 alternate drawings of the same symbol

## ADC_AD9215
designator U?
10 bit ADC 65/80/105MSPS
footprint LFCSP32
pins: 0 PAD (power), 1 DNC1 (in), 2 CLK (in), 3 DNC3 (in), 4 PDWN (in), 5 NC (out), 6 NC (out), 7 NC (out), 8 NC (out), 9 D0 (out), 10 D1 (out), 11 D2 (out), 12 D3 (out), 13 D4 (out), 14 D5 (out), 15 DGND (power), 16 DRVDD (power), 17 D6 (out), 18 D7 (out), 19 D8 (out), 20 D9 (out), 21 OR (out), 22 MODE (in), 23 SENSE, 24 VREF, 25 REFB, 26 REFT, 27 AVDD (power), 28 AGND (power), 29 VIN+ (in), 30 VIN- (in), 31 AGND (power), 32 AVDD (power)

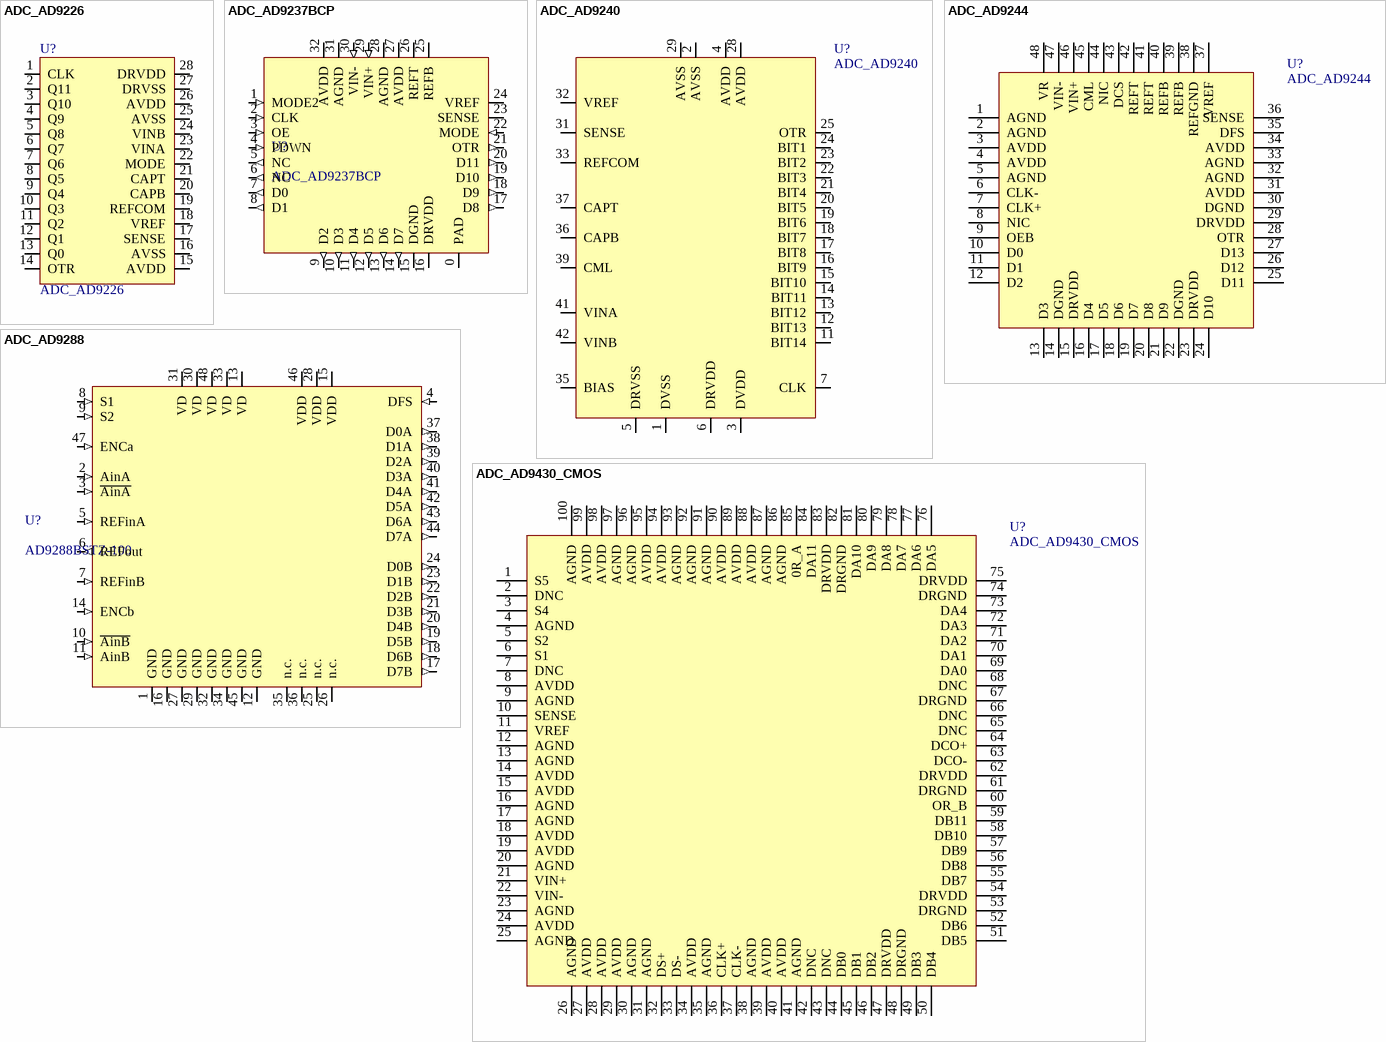
[diagram p4: symbols ADC_AD9226 to ADC_AD9430_CMOS]

## ADC_AD9226
designator U?
footprint SSOP28
pins: 1 CLK, 2 Q11, 3 Q10, 4 Q9, 5 Q8, 6 Q7, 7 Q6, 8 Q5, 9 Q4, 10 Q3, 11 Q2, 12 Q1, 13 Q0, 14 OTR, 15 AVDD, 16 AVSS, 17 SENSE, 18 VREF, 19 REFCOM, 20 CAPB, 21 CAPT, 22 MODE, 23 VINA, 24 VINB, 25 AVSS, 26 AVDD, 27 DRVSS, 28 DRVDD
2 alternate drawings of the same symbol

## ADC_AD9237BCP
designator U?
12/10 bit ADC 65/80/105MSPS
footprint LFCSP32
pins: 0 PAD (power), 1 MODE2 (in), 2 CLK (in), 3 OE (in), 4 PDWN (in), 5 NC (out), 6 NC (out), 7 D0 (out), 8 D1 (out), 9 D2 (out), 10 D3 (out), 11 D4 (out), 12 D5 (out), 13 D6 (out), 14 D7 (out), 15 DGND (power), 16 DRVDD (power), 17 D8 (out), 18 D9 (out), 19 D10 (out), 20 D11 (out), 21 OTR (out), 22 MODE (in), 23 SENSE, 24 VREF, 25 REFB, 26 REFT, 27 AVDD (power), 28 AGND (power), 29 VIN+ (in), 30 VIN- (in), 31 AGND (power), 32 AVDD (power)

## ADC_AD9240
designator U?
footprint MQFP44
pins: 1 DVSS, 2 AVSS, 3 DVDD, 4 AVDD, 5 DRVSS, 6 DRVDD, 7 CLK, 11 BIT14, 12 BIT13, 13 BIT12, 14 BIT11, 15 BIT10, 16 BIT9, 17 BIT8, 18 BIT7, 19 BIT6, 20 BIT5, 21 BIT4, 22 BIT3, 23 BIT2, 24 BIT1, 25 OTR, 28 AVDD, 29 AVSS, 31 SENSE, 32 VREF, 33 REFCOM, 35 BIAS, 36 CAPB, 37 CAPT, 39 CML, 41 VINA, 42 VINB
2 alternate drawings of the same symbol

## ADC_AD9244
designator U?
footprint lqfp48
pins: 1 AGND, 2 AGND, 3 AVDD, 4 AVDD, 5 AGND, 6 CLK-, 7 CLK+, 8 NIC, 9 OEB, 10 D0, 11 D1, 12 D2, 13 D3, 14 DGND, 15 DRVDD, 16 D4, 17 D5, 18 D6, 19 D7, 20 D8, 21 D9, 22 DGND, 23 DRVDD, 24 D10, 25 D11, 26 D12, 27 D13, 28 OTR, 29 DRVDD, 30 DGND, 31 AVDD, 32 AGND, 33 AGND, 34 AVDD, 35 DFS, 36 SENSE, 37 VREF, 38 REFGND, 39 REFB, 40 REFB, 41 REFT, 42 REFT, 43 DCS, 44 NIC, 45 CML, 46 VIN+, 47 VIN-, 48 VR
2 alternate drawings of the same symbol

## ADC_AD9288
designator U?, comment AD9288BSTZ-100
Dual  8-Bit, 40/80/100 MSPS A/D Converter
footprint LQFP48
pins: 1 GND (power), 2 AinA (in), 3 ~{AinA} (in), 4 DFS (in), 5 REFinA (in), 6 REFout (out), 7 REFinB (in), 8 S1 (in), 9 S2 (in), 10 ~{AinB} (in), 11 AinB (in), 12 GND (power), 13 VD (power), 14 ENCb (in), 15 VDD (power), 16 GND (power), 17 D7B (out), 18 D6B (out), 19 D5B (out), 20 D4B (out), 21 D3B (out), 22 D2B (out), 23 D1B (out), 24 D0B (out), 25 n.c., 26 n.c., 27 GND (power), 28 VDD (power), 29 GND (power), 30 VD (power), 31 VD (power), 32 GND (power), 33 VD (power), 34 GND (power), 35 n.c., 36 n.c., 37 D0A (out), 38 D1A (out), 39 D2A (out), 40 D3A (out), 41 D4A (out), 42 D5A (out), 43 D6A (out), 44 D7A (out), 45 GND (power), 46 VDD (power), 47 ENCa (in), 48 VD (power)

## ADC_AD9430_CMOS
designator U?
footprint TQFP100
pins: 1 S5, 2 DNC, 3 S4, 4 AGND, 5 S2, 6 S1, 7 DNC, 8 AVDD, 9 AGND, 10 SENSE, 11 VREF, 12 AGND, 13 AGND, 14 AVDD, 15 AVDD, 16 AGND, 17 AGND, 18 AVDD, 19 AVDD, 20 AGND, 21 VIN+, 22 VIN-, 23 AGND, 24 AVDD, 25 AGND, 26 AGND, 27 AVDD, 28 AVDD, 29 AVDD, 30 AGND, 31 AGND, 32 DS+, 33 DS-, 34 AVDD, 35 AGND, 36 CLK+, 37 CLK-, 38 AGND, 39 AVDD, 40 AVDD, 41 AGND, 42 DNC, 43 DNC, 44 DB0, 45 DB1, 46 DB2, 47 DRVDD, 48 DRGND, 49 DB3, 50 DB4, 51 DB5, 52 DB6, 53 DRGND, 54 DRVDD, 55 DB7, 56 DB8, 57 DB9, 58 DB10, 59 DB11, 60 OR_B, 61 DRGND, 62 DRVDD, 63 DCO-, 64 DCO+, 65 DNC, 66 DNC, 67 DRGND, 68 DNC, 69 DA0, 70 DA1, 71 DA2, 72 DA3, 73 DA4, 74 DRGND, 75 DRVDD, 76 DA5, 77 DA6, 78 DA7, 79 DA8, 80 DA9, 81 DA10, 82 DRGND, 83 DRVDD, 84 DA11, 85 0R_A, 86 AGND, 87 AGND, 88 AVDD, 89 AVDD, 90 AVDD, 91 AGND, 92 AGND, 93 AGND, 94 AVDD, 95 AVDD, 96 AGND, 97 AGND, 98 AVDD, 99 AVDD, 100 AGND
2 alternate drawings of the same symbol

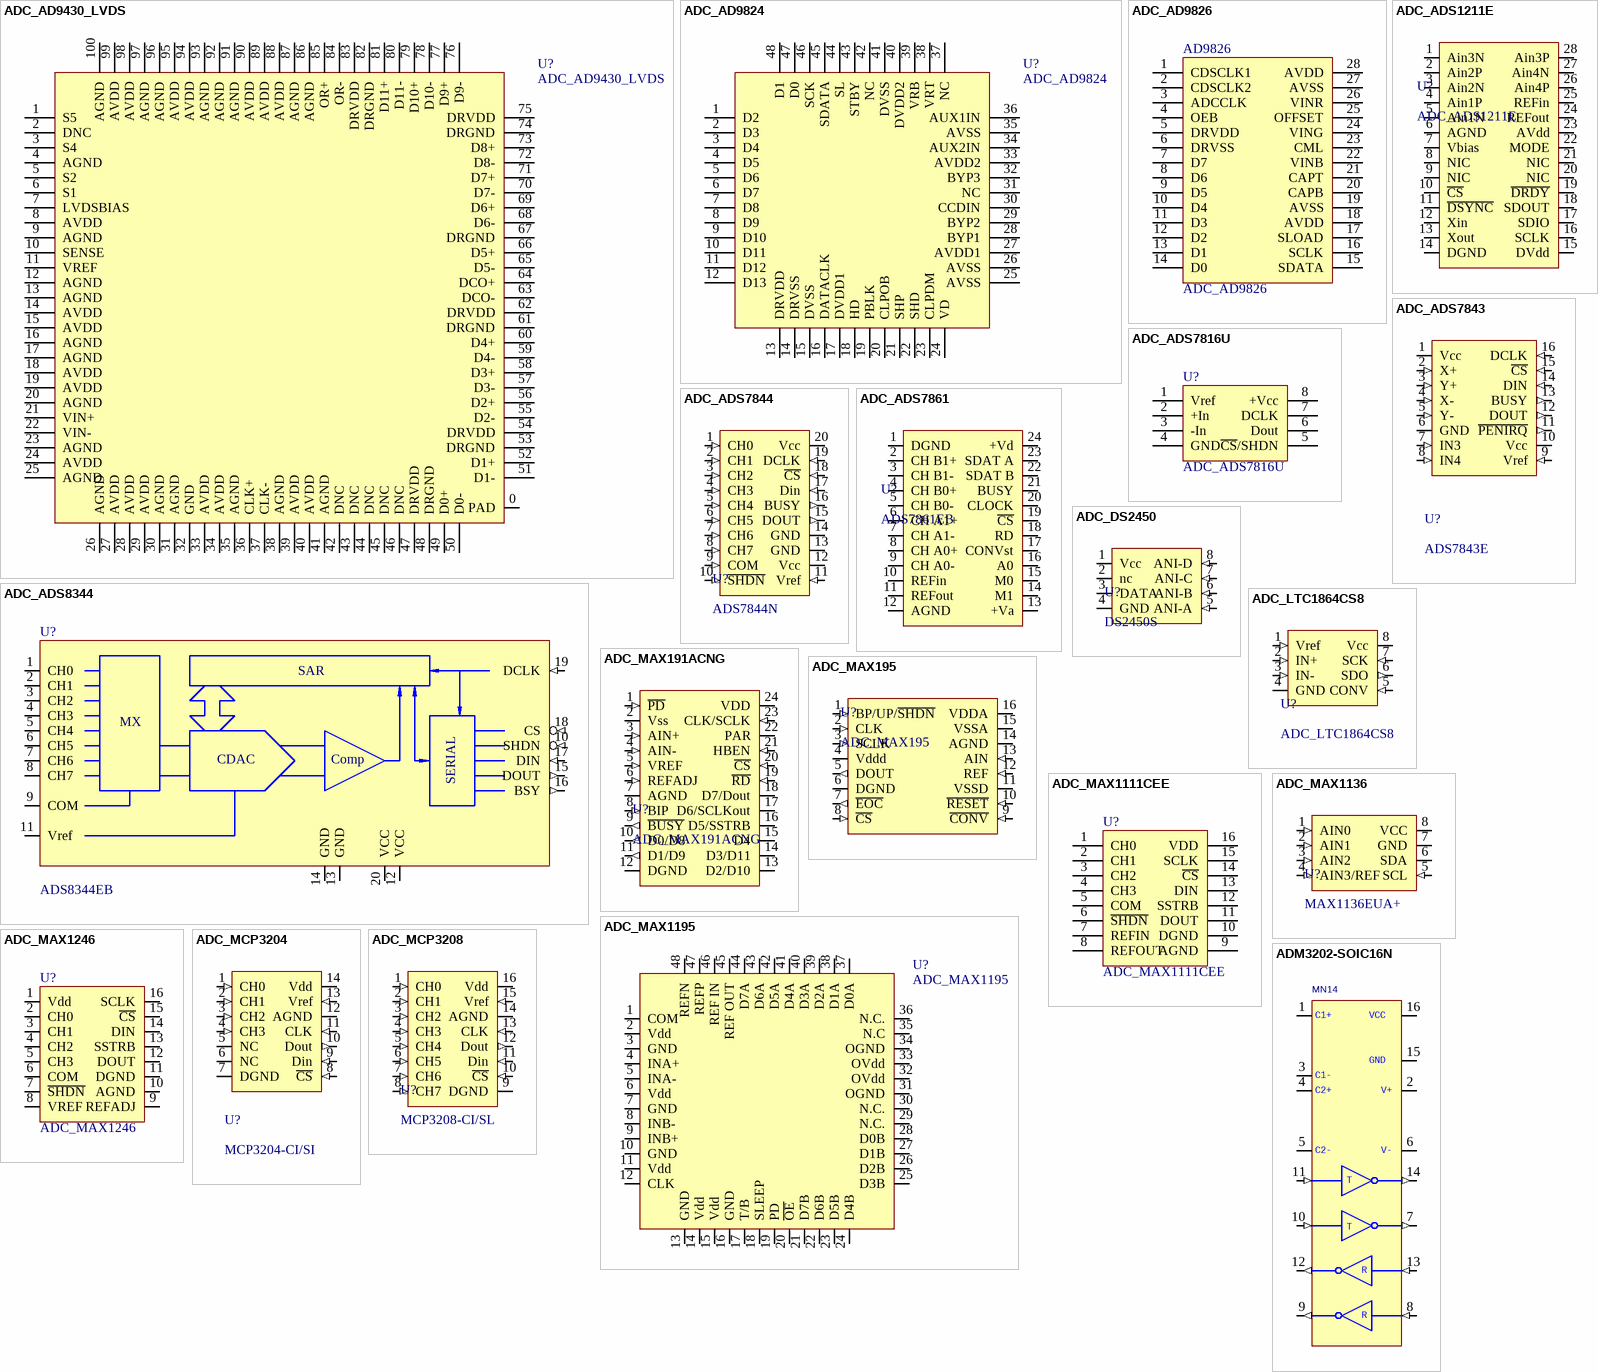
[diagram p5: symbols ADC_AD9430_LVDS to ADM3202-SOIC16N]

## ADC_AD9430_LVDS
designator U?
footprint TQFP100_TP
pins: 0 PAD, 1 S5, 2 DNC, 3 S4, 4 AGND, 5 S2, 6 S1, 7 LVDSBIAS, 8 AVDD, 9 AGND, 10 SENSE, 11 VREF, 12 AGND, 13 AGND, 14 AVDD, 15 AVDD, 16 AGND, 17 AGND, 18 AVDD, 19 AVDD, 20 AGND, 21 VIN+, 22 VIN-, 23 AGND, 24 AVDD, 25 AGND, 26 AGND, 27 AVDD, 28 AVDD, 29 AVDD, 30 AGND, 31 AGND, 32 GND, 33 AVDD, 34 AVDD, 35 AGND, 36 CLK+, 37 CLK-, 38 AGND, 39 AVDD, 40 AVDD, 41 AGND, 42 DNC, 43 DNC, 44 DNC, 45 DNC, 46 DNC, 47 DRVDD, 48 DRGND, 49 D0+, 50 D0-, 51 D1-, 52 D1+, 53 DRGND, 54 DRVDD, 55 D2-, 56 D2+, 57 D3-, 58 D3+, 59 D4-, 60 D4+, 61 DRGND, 62 DRVDD, 63 DCO-, 64 DCO+, 65 D5-, 66 D5+, 67 DRGND, 68 D6-, 69 D6+, 70 D7-, 71 D7+, 72 D8-, 73 D8+, 74 DRGND, 75 DRVDD, 76 D9-, 77 D9+, 78 D10-, 79 D10+, 80 D11-, 81 D11+, 82 DRGND, 83 DRVDD, 84 OR-, 85 OR+, 86 AGND, 87 AGND, 88 AVDD, 89 AVDD, 90 AVDD, 91 AGND, 92 AGND, 93 AGND, 94 AVDD, 95 AVDD, 96 AGND, 97 AGND, 98 AVDD, 99 AVDD, 100 AGND
2 alternate drawings of the same symbol

## ADC_AD9824
designator U?
14bit CCD frontend
footprint LFCSP48
pins: 1 D2, 2 D3, 3 D4, 4 D5, 5 D6, 6 D7, 7 D8, 8 D9, 9 D10, 10 D11, 11 D12, 12 D13, 13 DRVDD, 14 DRVSS, 15 DVSS, 16 DATACLK, 17 DVDD1, 18 HD, 19 PBLK, 20 CLPOB, 21 SHP, 22 SHD, 23 CLPDM, 24 VD, 25 AVSS, 26 AVSS, 27 AVDD1, 28 BYP1, 29 BYP2, 30 CCDIN, 31 NC, 32 BYP3, 33 AVDD2, 34 AUX2IN, 35 AVSS, 36 AUX1IN, 37 NC, 38 VRT, 39 VRB, 40 DVDD2, 41 DVSS, 42 NC, 43 STBY, 44 SL, 45 SDATA, 46 SCK, 47 D0, 48 D1
2 alternate drawings of the same symbol

## ADC_AD9826
designator AD9826
CCD 16 bit ADC
footprint SSOP28
pins: 1 CDSCLK1, 2 CDSCLK2, 3 ADCCLK, 4 OEB, 5 DRVDD, 6 DRVSS, 7 D7, 8 D6, 9 D5, 10 D4, 11 D3, 12 D2, 13 D1, 14 D0, 15 SDATA, 16 SCLK, 17 SLOAD, 18 AVDD, 19 AVSS, 20 CAPB, 21 CAPT, 22 VINB, 23 CML, 24 VING, 25 OFFSET, 26 VINR, 27 AVSS, 28 AVDD
2 alternate drawings of the same symbol

## ADC_ADS1211E
designator U?
TI sigma delta 24bit, 4CH serial ADC
footprint SSOP28DB
pins: 1 Ain3N, 2 Ain2P, 3 Ain2N, 4 Ain1P, 5 Ain1N, 6 AGND, 7 Vbias, 8 NIC, 9 NIC, 10 ~{CS}, 11 ~{DSYNC}, 12 Xin, 13 Xout, 14 DGND, 15 DVdd, 16 SCLK, 17 SDIO, 18 SDOUT, 19 ~{DRDY}, 20 NIC, 21 NIC, 22 MODE, 23 AVdd, 24 REFout, 25 REFin, 26 Ain4P, 27 Ain4N, 28 Ain3P

## ADC_ADS7816U
designator U?
footprint SOIC8
pins: 1 Vref, 2 +In, 3 -In, 4 GND, 5 ~{CS}/SHDN, 6 Dout, 7 DCLK, 8 +Vcc
2 alternate drawings of the same symbol

## ADC_ADS7843
designator U?, comment ADS7843E
TOUCH SCREEN CONTROLLER
footprint PSOP16
pins: 1 Vcc (power), 2 X+ (in), 3 Y+ (in), 4 X- (in), 5 Y- (in), 6 GND (power), 7 IN3 (in), 8 IN4 (in), 9 Vref (in), 10 Vcc (power), 11 ~{PENIRQ} (out), 12 DOUT (out), 13 BUSY (out), 14 DIN (in), 15 ~{CS} (in), 16 DCLK (in)

## ADC_ADS7844
designator U?, comment ADS7844N
12-Bit, 8-Channel Serial Output Sampling ADC
footprint ssop20
pins: 1 CH0 (in), 2 CH1 (in), 3 CH2 (in), 4 CH3 (in), 5 CH4 (in), 6 CH5 (in), 7 CH6 (in), 8 CH7 (in), 9 COM (in), 10 ~{SHDN} (in), 11 Vref (in), 12 Vcc (power), 13 GND (power), 14 GND (power), 15 DOUT (out), 16 BUSY (out), 17 Din (in), 18 ~{CS} (in), 19 DCLK (in), 20 Vcc (power)

## ADC_ADS7861
designator U?, comment ADS7861EB
4 CH 12 bit 500ksps double ADC
footprint SSOP24
pins: 1 DGND (power), 2 CH B1+ (power), 3 CH B1- (power), 4 CH B0+ (power), 5 CH B0- (power), 6 CH A1+ (power), 7 CH A1- (power), 8 CH A0+ (power), 9 CH A0- (power), 10 REFin (power), 11 REFout (power), 12 AGND (power), 13 +Va (power), 14 M1 (power), 15 M0 (power), 16 A0 (power), 17 CONVst (power), 18 RD (power), 19 ~{CS} (power), 20 CLOCK (power), 21 BUSY (power), 22 SDAT B (power), 23 SDAT A (power), 24 +Vd (power)

## ADC_ADS8344
designator U?, comment ADS8344EB
16 bit serial 8channel ADC
footprint QSOP-20
pins: 1 CH0, 2 CH1, 3 CH2, 4 CH3, 5 CH4, 6 CH5, 7 CH6, 8 CH7, 9 COM, 10 SHDN (in), 11 Vref, 12 VCC (power), 13 GND (power), 14 GND (power), 15 DOUT (out), 16 BSY (out), 17 DIN (in), 18 CS (in), 19 DCLK (in), 20 VCC (power)
text: SAR; MX; CDAC; Comp; SERIAL

## ADC_DS2450
designator U?, comment DS2450S
1-Wire Quad A/D Converter
footprint SO-8L
pins: 1 Vcc (power), 2 nc, 3 DATA (io), 4 GND (power), 5 ANI-A (in), 6 ANI-B (in), 7 ANI-C (in), 8 ANI-D (in)

## ADC_LTC1864CS8
designator U?
16 bit ADC (TME)
footprint so-8
pins: 1 Vref (in), 2 IN+ (in), 3 IN- (in), 4 GND (power), 5 CONV (in), 6 SDO (out), 7 SCK (in), 8 Vcc (power)

## ADC_MAX191ACNG
designator U?
12 bit 100ksps ADC with serial/parallel interface
footprint narrow_DIP24
pins: 1 ~{PD} (in), 2 Vss (power), 3 AIN+ (in), 4 AIN- (in), 5 VREF (in), 6 REFADJ (in), 7 AGND (power), 8 BIP (in), 9 ~{BUSY} (out), 10 D0/D8 (out), 11 D1/D9 (out), 12 DGND (power), 13 D2/D10 (power), 14 D3/D11 (power), 15 D4 (power), 16 D5/SSTRB (power), 17 D6/SCLKout (power), 18 D7/Dout (power), 19 ~{RD} (in), 20 ~{CS} (in), 21 HBEN (in), 22 PAR (power), 23 CLK/SCLK (in), 24 VDD (power)

## ADC_MAX195
designator U?
85 ksps 16 bit ADC with serial out
footprint DIP-16
pins: 1 BP/UP/~{SHDN} (in), 2 CLK (in), 3 SCLK (in), 4 Vddd (power), 5 DOUT (out), 6 DGND (power), 7 ~{EOC} (out), 8 ~{CS} (in), 9 ~{CONV} (in), 10 ~{RESET} (in), 11 VSSD (power), 12 REF (in), 13 AIN (in), 14 AGND (power), 15 VSSA (power), 16 VDDA (power)

## ADC_MAX1111CEE
designator U?
footprint QSOP16
pins: 1 CH0, 2 CH1, 3 CH2, 4 CH3, 5 COM, 6 ~{SHDN}, 7 REFIN, 8 REFOUT, 9 AGND, 10 DGND, 11 DOUT, 12 SSTRB, 13 DIN, 14 ~{CS}, 15 SCLK, 16 VDD
2 alternate drawings of the same symbol

## ADC_MAX1136
designator U?, comment MAX1136EUA+
4-, 2-Wire Serial 10-Bit ADCs
footprint uMAX8
pins: 1 AIN0 (in), 2 AIN1 (in), 3 AIN2 (in), 4 AIN3/REF (in), 5 SCL (in), 6 SDA (io), 7 GND (power), 8 VCC (power)

## ADC_MAX1195
designator U?
footprint TQFP48
pins: 1 COM, 2 Vdd, 3 GND, 4 INA+, 5 INA-, 6 Vdd, 7 GND, 8 INB-, 9 INB+, 10 GND, 11 Vdd, 12 CLK, 13 GND, 14 Vdd, 15 Vdd, 16 GND, 17 T/B, 18 SLEEP, 19 PD, 20 ~{OE}, 21 D7B, 22 D6B, 23 D5B, 24 D4B, 25 D3B, 26 D2B, 27 D1B, 28 D0B, 29 N.C., 30 N.C., 31 OGND, 32 OVdd, 33 OVdd, 34 OGND, 35 N.C, 36 N.C., 37 D0A, 38 D1A, 39 D2A, 40 D3A, 41 D4A, 42 D5A, 43 D6A, 44 D7A, 45 REF OUT, 46 REF IN, 47 REFP, 48 REFN
2 alternate drawings of the same symbol

## ADC_MAX1246
designator U?
footprint DIP-16
pins: 1 Vdd, 2 CH0, 3 CH1, 4 CH2, 5 CH3, 6 COM, 7 ~{SHDN}, 8 VREF, 9 REFADJ, 10 AGND, 11 DGND, 12 DOUT, 13 SSTRB, 14 DIN, 15 ~{CS}, 16 SCLK
2 alternate drawings of the same symbol

## ADC_MCP3204
designator U?, comment MCP3204-CI/SI
2.7V 4-Channel  12-Bit A/D Converter  with SPI™
footprint SO-14
pins: 1 CH0 (in), 2 CH1 (in), 3 CH2 (in), 4 CH3 (in), 5 NC, 6 NC, 7 DGND (power), 8 ~{CS} (in), 9 Din (in), 10 Dout (out), 11 CLK (in), 12 AGND (power), 13 Vref (in), 14 Vdd (power)

## ADC_MCP3208
designator U?, comment MCP3208-CI/SL
8-Channel 12-Bit A/D with SPI
footprint SO-16
pins: 1 CH0 (in), 2 CH1 (in), 3 CH2 (in), 4 CH3 (in), 5 CH4 (in), 6 CH5 (in), 7 CH6 (in), 8 CH7 (in), 9 DGND (power), 10 ~{CS} (in), 11 Din (in), 12 Dout (out), 13 CLK (in), 14 AGND (power), 15 Vref (in), 16 Vdd (power)

## ADM3202-SOIC16N
designator MN14  (value not drawn)
FAB: AD; DEV: SO16; DESIG: Tranceiver RS232; REF: ADM3202ARNZ; Right: 60; Bottom: 230; BOI: SO16; RoHS: YES
footprint SO-16
pins: 1, 2 V+, 3, 4, 5, 6 V-, 7 (out), 8 (in), 9 (out), 10 (in), 11 (in), 12 (out), 13 (in), 14 (out), 15 GND (power), 16 VCC (power)
text: C1+; C1-; C2+; C2-; T; R

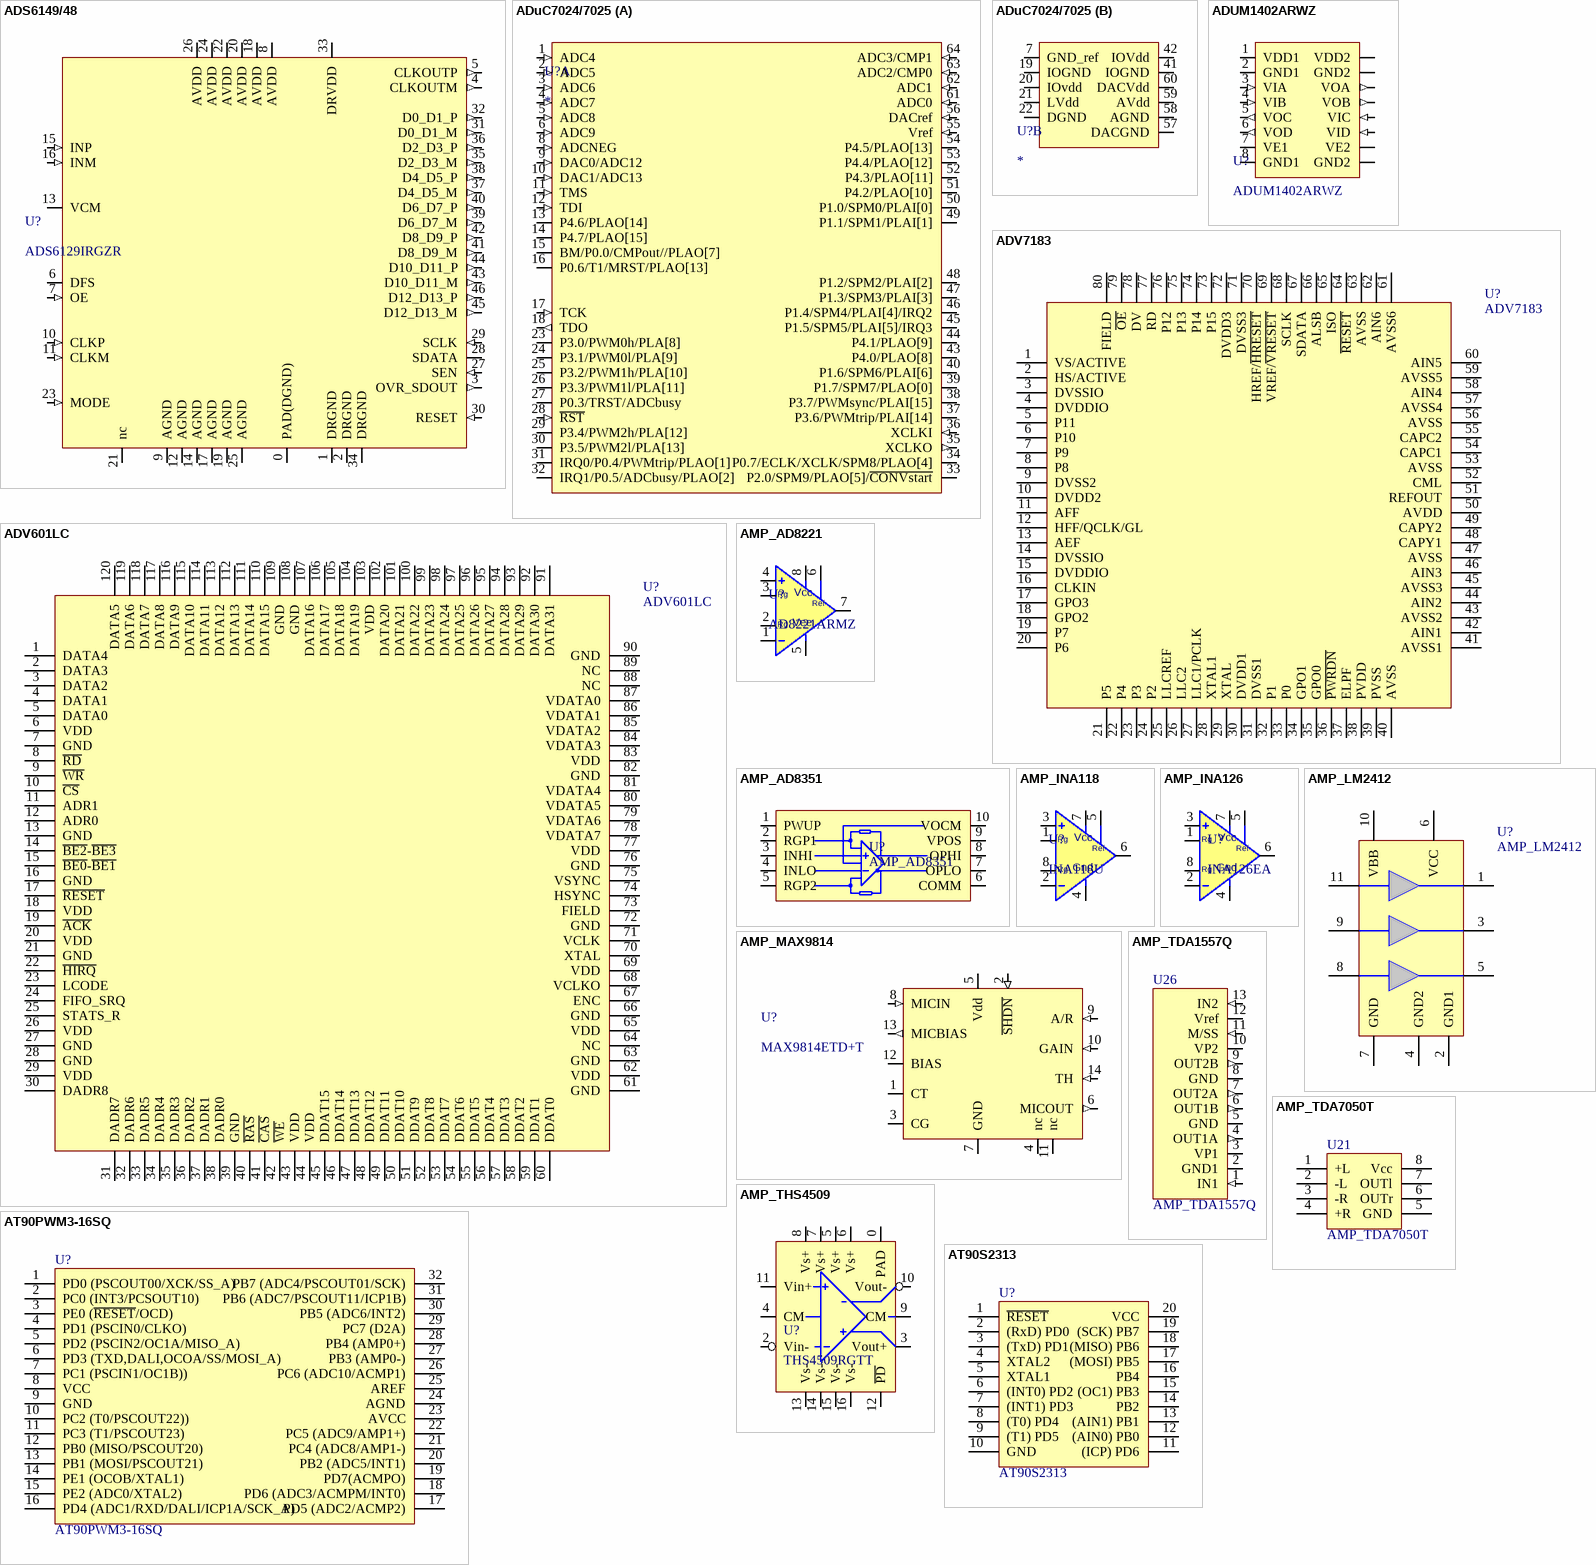
[diagram p6: symbols ADS6149/48 to AT90S2313]

## ADS6149/48
designator U?, comment ADS6129IRGZR
14/12-Bit, 250/210 MSPS ADCs With DDR LVDS and Parallel CMOS Outputs
footprint S-PQFP-N48 (Footprint not found)
pins: 0 PAD(DGND) (power), 1 DRGND (power), 2 DRGND (power), 3 OVR_SDOUT (out), 4 CLKOUTM (out), 5 CLKOUTP (out), 6 DFS, 7 OE (in), 8 AVDD (power), 9 AGND (power), 10 CLKP (in), 11 CLKM (in), 12 AGND (power), 13 VCM, 14 AGND (power), 15 INP (in), 16 INM (in), 17 AGND (power), 18 AVDD (power), 19 AGND (power), 20 AVDD (power), 21 nc, 22 AVDD (power), 23 MODE (in), 24 AVDD (power), 25 AGND (power), 26 AVDD (power), 27 SEN (in), 28 SDATA (io), 29 SCLK (in), 30 RESET (in), 31 D0_D1_M (out), 32 D0_D1_P (out), 33 DRVDD (power), 34 DRGND (power), 35 D2_D3_M (out), 36 D2_D3_P (out), 37 D4_D5_M (out), 38 D4_D5_P (out), 39 D6_D7_M (out), 40 D6_D7_P (out), 41 D8_D9_M (out), 42 D8_D9_P (out), 43 D10_D11_M (out), 44 D10_D11_P (out), 45 D12_D13_M (out), 46 D12_D13_P (out)

## ADuC7024/7025
designator U?
Analog Devices ARM based microprocessor
footprint LQFP64
part A pins: 1 ADC4 (in), 2 ADC5 (in), 3 ADC6 (in), 4 ADC7 (in), 5 ADC8 (in), 6 ADC9 (in), 8 ADCNEG (in), 9 DAC0/ADC12 (in), 10 DAC1/ADC13 (in), 11 TMS (in), 12 TDI (in), 13 P4.6/PLAO[14] (io), 14 P4.7/PLAO[15] (io), 15 BM/P0.0/CMPout//PLAO[7] (io), 16 P0.6/T1/MRST/PLAO[13] (io), 17 TCK (in), 18 TDO (out), 23 P3.0/PWM0h/PLA[8] (io), 24 P3.1/PWM0l/PLA[9] (io), 25 P3.2/PWM1h/PLA[10] (io), 26 P3.3/PWM1l/PLA[11] (io), 27 P0.3/TRST/ADCbusy (io), 28 ~{RST} (in), 29 P3.4/PWM2h/PLA[12] (io), 30 P3.5/PWM2l/PLA[13] (io), 31 IRQ0/P0.4/PWMtrip/PLAO[1] (io), 32 IRQ1/P0.5/ADCbusy/PLAO[2] (io), 33 P2.0/SPM9/PLAO[5]/~{CONVstart} (io), 34 P0.7/ECLK/XCLK/SPM8/PLAO[4] (io), 35 XCLKO (out), 36 XCLKI (in), 37 P3.6/PWMtrip/PLAI[14] (io), 38 P3.7/PWMsync/PLAI[15] (io), 39 P1.7/SPM7/PLAO[0] (io), 40 P1.6/SPM6/PLAI[6] (io), 43 P4.0/PLAO[8] (io), 44 P4.1/PLAO[9] (io), 45 P1.5/SPM5/PLAI[5]/IRQ3 (io), 46 P1.4/SPM4/PLAI[4]/IRQ2 (io), 47 P1.3/SPM3/PLAI[3] (io), 48 P1.2/SPM2/PLAI[2] (io), 49 P1.1/SPM1/PLAI[1] (io), 50 P1.0/SPM0/PLAI[0] (io), 51 P4.2/PLAO[10] (io), 52 P4.3/PLAO[11] (io), 53 P4.4/PLAO[12] (io), 54 P4.5/PLAO[13] (io), 55 Vref (in), 56 DACref (in), 61 ADC0 (in), 62 ADC1 (in), 63 ADC2/CMP0 (in), 64 ADC3/CMP1 (in)
part B pins: 7 GND_ref (power), 19 IOGND (power), 20 IOvdd (power), 21 LVdd (power), 22 DGND (power), 41 IOGND (power), 42 IOVdd (power), 57 DACGND (power), 58 AGND (power), 59 AVdd (power), 60 DACVdd (power)

## ADUM1402ARWZ
designator U?
Quad-Channel Digital Isolators (TME)
footprint SOIC16
pins: 1 VDD1 (power), 2 GND1 (power), 3 VIA (in), 4 VIB (in), 5 VOC (out), 6 VOD (out), 7 VE1 (power), 8 GND1 (power), 9 GND2 (power), 10 VE2 (power), 11 VID (in), 12 VIC (in), 13 VOB (out), 14 VOA (out), 15 GND2 (power), 16 VDD2 (power)

## ADV601LC
designator U?
JPEG video compressor/decompressor
footprint LQFP120
pins: 1 DATA4, 2 DATA3, 3 DATA2, 4 DATA1, 5 DATA0, 6 VDD, 7 GND, 8 ~{RD}, 9 ~{WR}, 10 ~{CS}, 11 ADR1, 12 ADR0, 13 GND, 14 ~{BE2}-~{BE3}, 15 ~{BE0}-~{BE1}, 16 GND, 17 ~{RESET}, 18 VDD, 19 ~{ACK}, 20 VDD, 21 GND, 22 ~{HIRQ}, 23 LCODE, 24 FIFO_SRQ, 25 STATS_R, 26 VDD, 27 GND, 28 GND, 29 VDD, 30 DADR8, 31 DADR7, 32 DADR6, 33 DADR5, 34 DADR4, 35 DADR3, 36 DADR2, 37 DADR1, 38 DADR0, 39 GND, 40 ~{RAS}, 41 ~{CAS}, 42 ~{WE}, 43 VDD, 44 VDD, 45 DDAT15, 46 DDAT14, 47 DDAT13, 48 DDAT12, 49 DDAT11, 50 DDAT10, 51 DDAT9, 52 DDAT8, 53 DDAT7, 54 DDAT6, 55 DDAT5, 56 DDAT4, 57 DDAT3, 58 DDAT2, 59 DDAT1, 60 DDAT0, 61 GND, 62 VDD, 63 GND, 64 NC, 65 VDD, 66 GND, 67 ENC, 68 VCLKO, 69 VDD, 70 XTAL, 71 VCLK, 72 GND, 73 FIELD, 74 HSYNC, 75 VSYNC, 76 GND, 77 VDD, 78 VDATA7, 79 VDATA6, 80 VDATA5, 81 VDATA4, 82 GND, 83 VDD, 84 VDATA3, 85 VDATA2, 86 VDATA1, 87 VDATA0, 88 NC, 89 NC, 90 GND, 91 DATA31, 92 DATA30, 93 DATA29, 94 DATA28, 95 DATA27, 96 DATA26, 97 DATA25, 98 DATA24, 99 DATA23, 100 DATA22, 101 DATA21, 102 DATA20, 103 VDD, 104 DATA19, 105 DATA18, 106 DATA17, 107 DATA16, 108 GND, 109 GND, 110 DATA15, 111 DATA14, 112 DATA13, 113 DATA12, 114 DATA11, 115 DATA10, 116 DATA9, 117 DATA8, 118 DATA7, 119 DATA6, 120 DATA5
2 alternate drawings of the same symbol

## ADV7183
designator U?
footprint LQFP80
pins: 1 VS/ACTIVE, 2 HS/ACTIVE, 3 DVSSIO, 4 DVDDIO, 5 P11, 6 P10, 7 P9, 8 P8, 9 DVSS2, 10 DVDD2, 11 AFF, 12 HFF/QCLK/GL, 13 AEF, 14 DVSSIO, 15 DVDDIO, 16 CLKIN, 17 GPO3, 18 GPO2, 19 P7, 20 P6, 21 P5, 22 P4, 23 P3, 24 P2, 25 LLCREF, 26 LLC2, 27 LLC1/PCLK, 28 XTAL1, 29 XTAL, 30 DVDD1, 31 DVSS1, 32 P1, 33 P0, 34 GPO1, 35 GPO0, 36 ~{PWRDN}, 37 ELPF, 38 PVDD, 39 PVSS, 40 AVSS, 41 AVSS1, 42 AIN1, 43 AVSS2, 44 AIN2, 45 AVSS3, 46 AIN3, 47 AVSS, 48 CAPY1, 49 CAPY2, 50 AVDD, 51 REFOUT, 52 CML, 53 AVSS, 54 CAPC1, 55 CAPC2, 56 AVSS, 57 AVSS4, 58 AIN4, 59 AVSS5, 60 AIN5, 61 AVSS6, 62 AIN6, 63 AVSS, 64 ~{RESET}, 65 ISO, 66 ALSB, 67 SDATA, 68 SCLK, 69 VREF/~{VRESET}, 70 HREF/~{HRESET}, 71 DVSS3, 72 DVDD3, 73 P15, 74 P14, 75 P13, 76 P12, 77 RD, 78 DV, 79 ~{OE}, 80 FIELD
2 alternate drawings of the same symbol

## AMP_AD8221
designator U?, comment AD8221ARMZ
precision instrumentation amplifier
footprint SO-8
footprint MSOP-8
pins: 1 -, 2 Rg, 3 Rg, 4 +, 5 GND, 6 offset, 7 out, 8 VCC
text: Vcc; Ref; Vee

## AMP_AD8351
designator U?
HF prog gain symmetrical amplifier
footprint msop10
pins: 1 PWUP (power), 2 RGP1 (power), 3 INHI (power), 4 INLO (power), 5 RGP2 (power), 6 COMM (power), 7 OPLO (power), 8 OPHI (power), 9 VPOS (power), 10 VOCM (power)
2 alternate drawings of the same symbol

## AMP_INA118
designator U?, comment INA118U
LP instrumentation amplifier
footprint SO-8
footprint DIP-8
pins: 1 Rg, 2 -, 3 +, 4 GND, 5 offset, 6 out, 7 VCC, 8 Rg
text: Vcc; Ref; Gnd

## AMP_INA126
designator U?, comment INA126EA
footprint MSOP-8
pins: 1 Rg, 2 -, 3 +, 4 GND, 5 offset, 6 out, 7 VCC, 8 Rg
text: Vcc; Ref; Gnd

## AMP_LM2412
designator U?
footprint TA11B
pins: 1, 2 GND1, 3, 4 GND2, 5, 6 VCC, 7 GND, 8, 9, 10 VBB, 11
2 alternate drawings of the same symbol

## AMP_MAX9814
designator U?, comment MAX9814ETD+T
Microphone Amplifier with AGC
footprint TDFN-14 (Footprint not found)
pins: 1 CT, 2 ~{SHDN} (in), 3 CG, 4 nc, 5 Vdd (power), 6 MICOUT (out), 7 GND (power), 8 MICIN (in), 9 A/R (in), 10 GAIN (in), 11 nc, 12 BIAS, 13 MICBIAS (out), 14 TH (in)

## AMP_TDA1557Q
designator U26
dual BTL car audio amplifier
footprint sot141-6
pins: 1 IN1 (in), 2 GND1 (power), 3 VP1 (power), 4 OUT1A (out), 5 GND (power), 6 OUT1B (out), 7 OUT2A (out), 8 GND (power), 9 OUT2B (out), 10 VP2 (power), 11 M/SS (in), 12 Vref, 13 IN2 (in)

## AMP_TDA7050T
designator U21
Low voltage mono/stereo power amplifier
footprint SO-8
pins: 1 +L, 2 -L, 3 -R, 4 +R, 5 GND, 6 OUTr, 7 OUTl, 8 Vcc

## AMP_THS4509
designator U?, comment THS4509RGTT
WIDEBAND, LOW NOISE, LOW DISTORTION FULLY DIFFERENTIAL AMPLIFIER
footprint S-PQFP-N16
pins: 0 PAD (power), 2 Vin- (power), 3 Vout+ (power), 4 CM (power), 5 Vs+ (power), 6 Vs+ (power), 7 Vs+ (power), 8 Vs+ (power), 9 CM (power), 10 Vout- (power), 11 Vin+ (power), 12 ~{PD} (power), 13 Vs- (power), 14 Vs- (power), 15 Vs- (power), 16 Vs- (power)

## AT90PWM3-16SQ
designator U?
Atmel AVR family microcontroller
footprint SOIC32
pins: 1 PD0 (PSCOUT00/XCK/SS_A), 2 PC0 (INT3/PCSOUT10), 3 PE0 (~{RESET}/OCD), 4 PD1 (PSCIN0/CLKO), 5 PD2 (PSCIN2/OC1A/MISO_A), 6 PD3 (TXD,DALI,OCOA/SS/MOSI_A), 7 PC1 (PSCIN1/OC1B)), 8 VCC, 9 GND, 10 PC2 (T0/PSCOUT22)), 11 PC3 (T1/PSCOUT23), 12 PB0 (MISO/PSCOUT20), 13 PB1 (MOSI/PSCOUT21), 14 PE1 (OCOB/XTAL1), 15 PE2 (ADC0/XTAL2), 16 PD4 (ADC1/RXD/DALI/ICP1A/SCK_A), 17 PD5 (ADC2/ACMP2), 18 PD6 (ADC3/ACMPM/INT0), 19 PD7(ACMPO), 20 PB2 (ADC5/INT1), 21 PC4 (ADC8/AMP1-), 22 PC5 (ADC9/AMP1+), 23 AVCC, 24 AGND, 25 AREF, 26 PC6 (ADC10/ACMP1), 27 PB3 (AMP0-), 28 PB4 (AMP0+), 29 PC7 (D2A), 30 PB5 (ADC6/INT2), 31 PB6 (ADC7/PSCOUT11/ICP1B), 32 PB7 (ADC4/PSCOUT01/SCK)
2 alternate drawings of the same symbol

## AT90S2313
designator U?
AVR microcontroller
footprint DIP-20
footprint SOL-20
pins: 1 ~{RESET}, 2 (RxD) PD0, 3 (TxD) PD1, 4 XTAL2, 5 XTAL1, 6 (INT0) PD2, 7 (INT1) PD3, 8 (T0) PD4, 9 (T1) PD5, 10 GND, 11 (ICP) PD6, 12 (AIN0) PB0, 13 (AIN1) PB1, 14 PB2, 15 (OC1) PB3, 16 PB4, 17 (MOSI) PB5, 18 (MISO) PB6, 19 (SCK) PB7, 20 VCC
2 alternate drawings of the same symbol

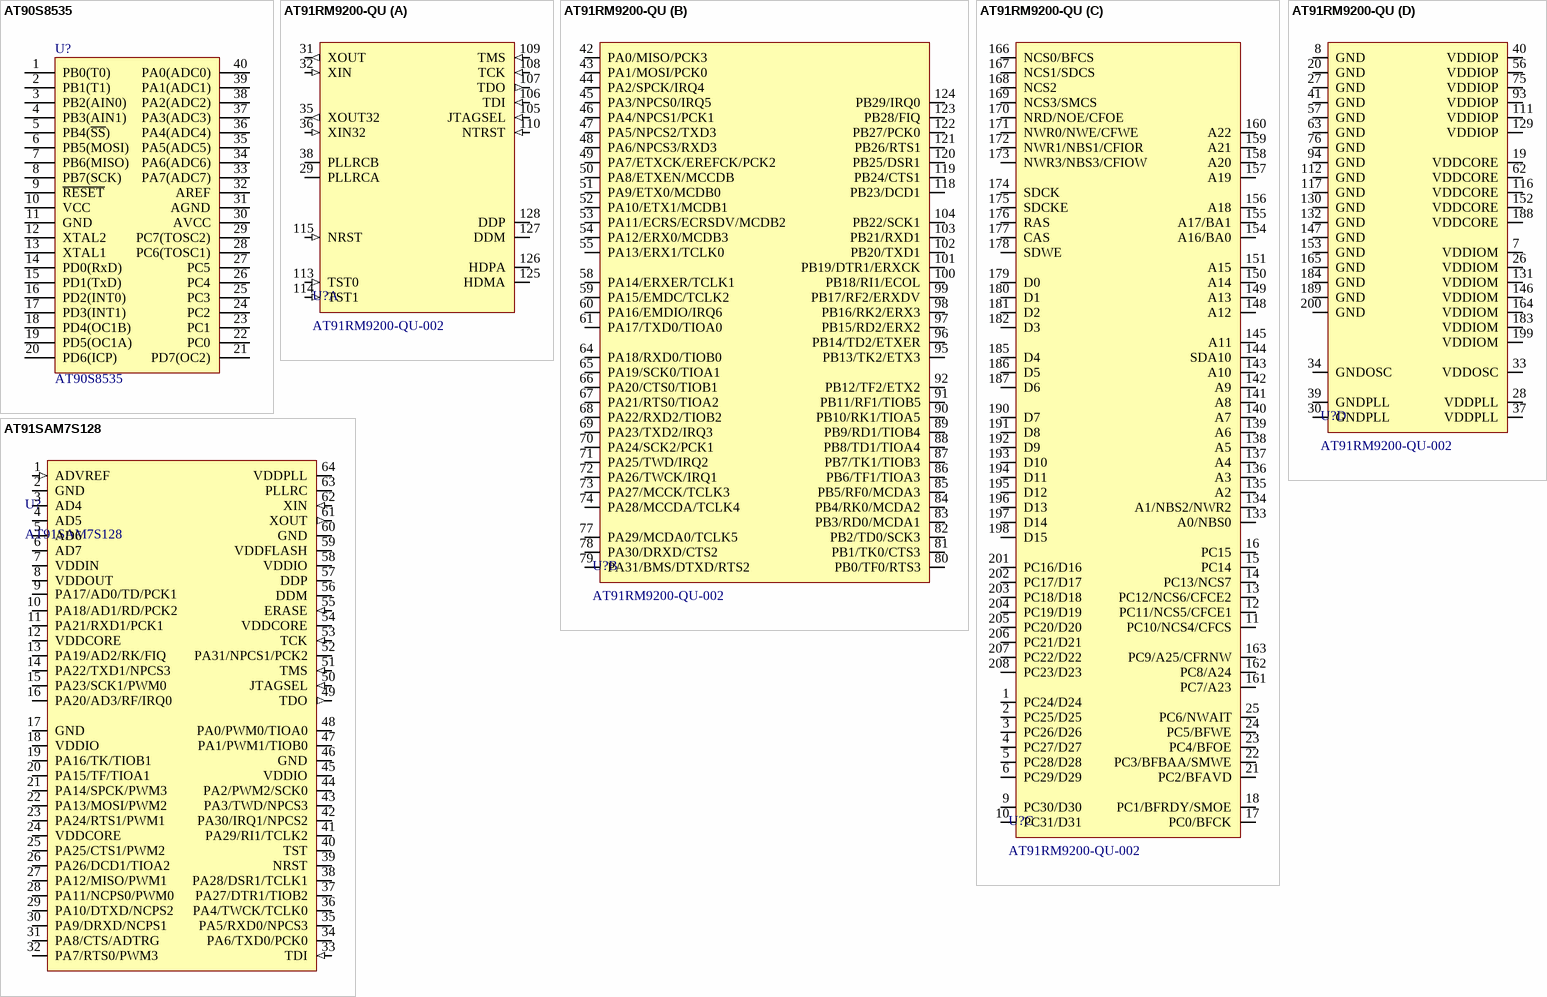
[diagram p7: symbols AT90S8535 to AT91SAM7S128]

## AT90S8535
designator U?
AVR mictocontroller
footprint DIP40
pins: 1 PB0(T0), 2 PB1(T1), 3 PB2(AIN0), 4 PB3(AIN1), 5 PB4(~{SS}), 6 PB5(MOSI), 7 PB6(MISO), 8 PB7(SCK), 9 ~{RESET}, 10 VCC, 11 GND, 12 XTAL2, 13 XTAL1, 14 PD0(RxD), 15 PD1(TxD), 16 PD2(INT0), 17 PD3(INT1), 18 PD4(OC1B), 19 PD5(OC1A), 20 PD6(ICP), 21 PD7(OC2), 22 PC0, 23 PC1, 24 PC2, 25 PC3, 26 PC4, 27 PC5, 28 PC6(TOSC1), 29 PC7(TOSC2), 30 AVCC, 31 AGND, 32 AREF, 33 PA7(ADC7), 34 PA6(ADC6), 35 PA5(ADC5), 36 PA4(ADC4), 37 PA3(ADC3), 38 PA2(ADC2), 39 PA1(ADC1), 40 PA0(ADC0)
2 alternate drawings of the same symbol